# EAGLE library part 5VLX110FF1760 (library xilinx_spartan3_virtex4_and_5)
Xilinx FPGA
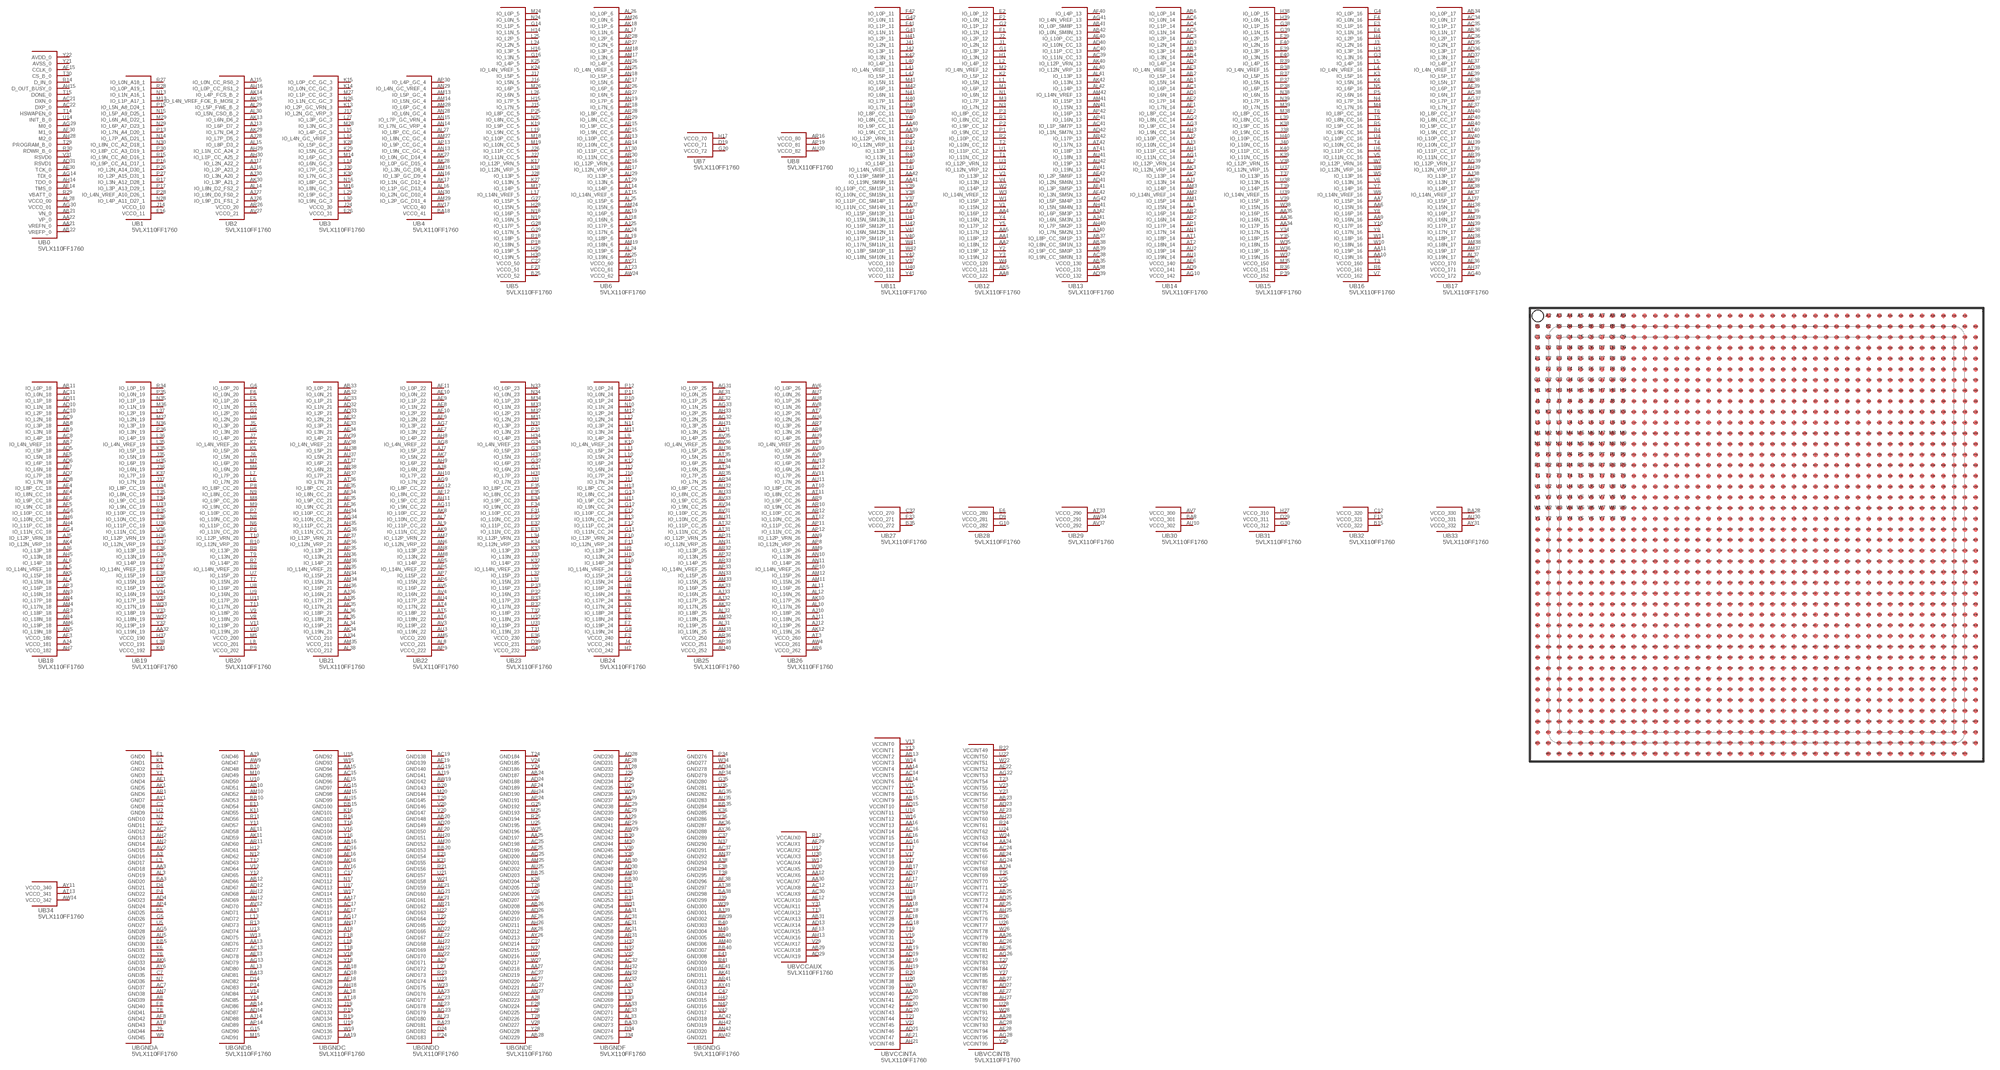
[diagram p100: symbol with the pads of FF1760; footprint FF1760]

Designator prefix U; gates B0=5VLX110FF1760_0 B1=5VLX110FF1760_1 B2=5VLX110FF1760_2 B3=5VLX110FF1760_3 B4=5VLX110FF1760_4 B5=5VLX110FF1760_5 B6=5VLX110FF1760_6 B7=5VLX110FF1760_7 B8=5VLX110FF1760_8 B11=5VLX110FF1760_11 B12=5VLX110FF1760_12 B13=5VLX110FF1760_13 B14=5VLX110FF1760_14 B15=5VLX110FF1760_15 B16=5VLX110FF1760_16 B17=5VLX110FF1760_17 B18=5VLX110FF1760_18 B19=5VLX110FF1760_19 B20=5VLX110FF1760_20 B21=5VLX110FF1760_21 B22=5VLX110FF1760_22 B23=5VLX110FF1760_23 B24=5VLX110FF1760_24 B25=5VLX110FF1760_25 B26=5VLX110FF1760_26 B27=5VLX110FF1760_27 B28=5VLX110FF1760_28 B29=5VLX110FF1760_29 B30=5VLX110FF1760_30 B31=5VLX110FF1760_31 B32=5VLX110FF1760_32 B33=5VLX110FF1760_33 B34=5VLX110FF1760_34 BGNDA=5VLX110FF1760_GNDA BGNDB=5VLX110FF1760_GNDB BGNDC=5VLX110FF1760_GNDC BGNDD=5VLX110FF1760_GNDD BGNDE=5VLX110FF1760_GNDE BGNDF=5VLX110FF1760_GNDF BGNDG=5VLX110FF1760_GNDG BVCCAUX=5VLX110FF1760_VCCAUX BVCCINTA=5VLX110FF1760_VCCINTA BVCCINTB=5VLX110FF1760_VCCINTB

## 5VLX110FF1760  [FF1760]
A3  BGNDA:GND16  pas
A8  BGNDA:GND39  pas
A13  BGNDB:GND71  pas
A18  BGNDC:GND120  pas
A23  BGNDD:GND171  pas
A28  BGNDE:GND223  pas
A33  BGNDF:GND267  pas
A38  BGNDG:GND293  pas
AA1  B12:IO_L18P_12
AA2  B12:IO_L18N_12
AA3  BGNDA:GND18  pas
AA4  B12:IO_L16P_12
AA5  B12:IO_L17N_12
AA6  B16:IO_L15N_16
AA7  B16:IO_L15P_16
AA8  B12:VCCO_122  pas
AA9  B16:IO_L16N_16
AA10  B16:IO_L19N_16
AA11  B16:IO_L19P_16
AA12  BVCCAUX:VCCAUX6  pas
AA13  BGNDB:GND76  pas
AA14  BVCCINTA:VCCINT4  pas
AA15  BGNDC:GND94  pas
AA16  BVCCINTA:VCCINT13  pas
AA17  BGNDC:GND115  pas
AA18  BVCCINTA:VCCINT26  pas
AA19  BGNDC:GND137  pas
AA20  BVCCINTA:VCCINT40  pas
AA21  B0:VREFN_0
AA22  B0:VP_0
AA23  BGNDD:GND176  pas
AA24  BVCCINTB:VCCINT64  pas
AA25  BGNDE:GND197  pas
AA26  BVCCINTB:VCCINT79  pas
AA27  BGNDE:GND218  pas
AA28  BVCCINTB:VCCINT92  pas
AA29  BGNDF:GND237  pas
AA30  BVCCAUX:VCCAUX7  pas
AA31  BGNDF:GND255  pas
AA32  B19:IO_L19N_19
AA33  BGNDF:GND270  pas
AA34  B15:IO_L17P_15
AA35  B15:IO_L16P_15
AA36  B15:IO_L16N_15
AA37  B11:IO_L11N_CC_SM14N_11
AA38  B13:VCCO_131  pas
AA39  B11:IO_L9N_CC_11
AA40  B11:IO_L9P_CC_11
AA41  B11:IO_L19N_SM9N_11
AA42  B11:IO_L19P_SM9P_11
AB1  B14:IO_L5N_14
AB2  B14:IO_L5P_14
AB3  B14:IO_L3P_14
AB4  B14:IO_L3N_14
AB5  B12:VCCO_121  pas
AB6  B14:IO_L0P_14
AB7  B18:IO_L4N_VREF_18
AB8  B18:IO_L3P_18
AB9  B18:IO_L3N_18
AB10  BGNDB:GND51  pas
AB11  B18:IO_L0P_18
AB12  BGNDB:GND66  pas
AB13  BVCCINTA:VCCINT2  pas
AB14  BGNDB:GND86  pas
AB15  BVCCINTA:VCCINT9  pas
AB16  BGNDC:GND106  pas
AB17  BVCCINTA:VCCINT20  pas
AB18  BGNDC:GND126  pas
AB19  BVCCINTA:VCCINT33  pas
AB20  BGNDD:GND148  pas
AB21  B0:VN_0
AB22  B0:VREFP_0
AB23  BVCCINTB:VCCINT57  pas
AB24  BGNDE:GND187  pas
AB25  BVCCINTB:VCCINT72  pas
AB26  BGNDE:GND208  pas
AB27  BVCCINTB:VCCINT86  pas
AB28  BGNDE:GND229  pas
AB29  BVCCAUX:VCCAUX18  pas
AB30  BGNDF:GND247  pas
AB31  BVCCAUX:VCCAUX13  pas
AB32  B21:IO_L0N_21
AB33  B21:IO_L0P_21
AB34  B17:IO_L0P_17
AB35  B13:VCCO_130  pas
AB36  B17:IO_L1N_17
AB37  B13:IO_L8P_CC_SM1P_13
AB38  B13:IO_L8N_CC_SM1N_13
AB39  B13:IO_L9P_CC_SM0P_13
AB40  BGNDG:GND305  pas
AB41  B13:IO_L0P_SM8P_13
AB42  B13:IO_L0N_SM8N_13
AC1  B14:IO_L6P_14
AC2  BGNDA:GND12  pas
AC3  B14:IO_L2P_14
AC4  B14:IO_L1P_14
AC5  B14:IO_L1N_14
AC6  B14:IO_L0N_14
AC7  BGNDA:GND37  pas
AC8  B18:IO_L4P_18
AC9  B18:IO_L2N_18
AC10  B18:IO_L2P_18
AC11  B18:IO_L0N_18
AC12  BVCCAUX:VCCAUX8  pas
AC13  BGNDB:GND77  pas
AC14  BVCCINTA:VCCINT5  pas
AC15  BGNDC:GND95  pas
AC16  BVCCINTA:VCCINT14  pas
AC17  BGNDC:GND116  pas
AC18  BVCCINTA:VCCINT27  pas
AC19  BGNDD:GND138  pas
AC20  BVCCINTA:VCCINT41  pas
AC21  B0:DXN_0
AC22  B0:DXP_0
AC23  BGNDD:GND177  pas
AC24  BVCCINTB:VCCINT65  pas
AC25  BGNDE:GND198  pas
AC26  BVCCINTB:VCCINT80  pas
AC27  BGNDE:GND219  pas
AC28  BVCCINTB:VCCINT93  pas
AC29  BGNDF:GND238  pas
AC30  BVCCAUX:VCCAUX9  pas
AC31  BGNDF:GND256  pas
AC32  BGNDF:GND263  pas
AC33  B21:IO_L1P_21
AC34  B17:IO_L0N_17
AC35  B17:IO_L1P_17
AC36  B17:IO_L2P_17
AC37  BGNDG:GND291  pas
AC38  B13:IO_L9N_CC_SM0N_13
AC39  B13:IO_L11N_CC_13
AC40  B13:IO_L11P_CC_13
AC41  B13:IO_L1P_SM7P_13
AC42  BGNDG:GND318  pas
AD1  B14:IO_L6N_14
AD2  B14:IO_L4P_14
AD3  B14:IO_L2N_14
AD4  BGNDA:GND23  pas
AD5  B18:IO_L5P_18
AD6  B18:IO_L6P_18
AD7  B18:IO_L7P_18
AD8  B18:IO_L7N_18
AD9  B14:VCCO_141  pas
AD10  B18:IO_L1N_18
AD11  B18:IO_L1P_18
AD12  BGNDB:GND67  pas
AD13  BVCCAUX:VCCAUX14  pas
AD14  BGNDB:GND87  pas
AD15  BVCCINTA:VCCINT10  pas
AD16  BGNDC:GND107  pas
AD17  BVCCINTA:VCCINT21  pas
AD18  BGNDC:GND127  pas
AD19  BVCCINTA:VCCINT34  pas
AD20  BGNDD:GND149  pas
AD21  BVCCINTA:VCCINT46  pas
AD22  BGNDD:GND166  pas
AD23  BVCCINTB:VCCINT58  pas
AD24  BGNDE:GND188  pas
AD25  BVCCINTB:VCCINT73  pas
AD26  BGNDE:GND209  pas
AD27  BVCCINTB:VCCINT87  pas
AD28  BGNDF:GND230  pas
AD29  BVCCAUX:VCCAUX19  pas
AD30  BGNDF:GND248  pas
AD31  B0:RSVD1
AD32  B21:IO_L1N_21
AD33  B21:IO_L2P_21
AD34  BGNDG:GND278  pas
AD35  B17:IO_L2N_17
AD36  B17:IO_L3P_17
AD37  B17:IO_L3N_17
AD38  B17:IO_L4N_VREF_17
AD39  B13:VCCO_132  pas
AD40  B13:IO_L10N_CC_13
AD41  B13:IO_L2N_SM6N_13
AD42  B13:IO_L1N_SM7N_13
AE1  BGNDA:GND4  pas
AE2  B14:IO_L7P_14
AE3  B14:IO_L4N_VREF_14
AE4  B18:IO_L8P_CC_18
AE5  B18:IO_L5N_18
AE6  B14:VCCO_140  pas
AE7  B18:IO_L6N_18
AE8  B22:IO_L1N_22
AE9  B22:IO_L1P_22
AE10  B22:IO_L0N_22
AE11  BGNDB:GND58  pas
AE12  BVCCAUX:VCCAUX10  pas
AE13  BGNDB:GND78  pas
AE14  BVCCINTA:VCCINT6  pas
AE15  BGNDC:GND96  pas
AE16  BVCCINTA:VCCINT15  pas
AE17  BGNDC:GND117  pas
AE18  BVCCINTA:VCCINT28  pas
AE19  BGNDD:GND139  pas
AE20  BVCCINTA:VCCINT42  pas
AE21  BGNDD:GND159  pas
AE22  BVCCINTB:VCCINT52  pas
AE23  BGNDD:GND178  pas
AE24  BVCCINTB:VCCINT66  pas
AE25  BGNDE:GND199  pas
AE26  BVCCINTB:VCCINT81  pas
AE27  BGNDE:GND220  pas
AE28  BVCCINTB:VCCINT94  pas
AE29  BGNDF:GND239  pas
AE30  B0:TCK_0
AE31  BGNDF:GND257  pas
AE32  B21:IO_L2N_21
AE33  B21:IO_L3P_21
AE34  B21:IO_L3N_21
AE35  B21:IO_L8P_CC_21
AE36  B17:VCCO_170  pas
AE37  B17:IO_L4P_17
AE38  B17:IO_L5N_17
AE39  B17:IO_L5P_17
AE40  B13:IO_L10P_CC_13
AE41  BGNDG:GND310  pas
AE42  B13:IO_L2P_SM6P_13
AF1  B14:IO_L7N_14
AF2  B14:IO_L8P_CC_14
AF3  B18:VCCO_180  pas
AF4  B18:IO_L8N_CC_18
AF5  B18:IO_L9N_CC_18
AF6  B18:IO_L9P_CC_18
AF7  B22:IO_L3N_22
AF8  BGNDA:GND42  pas
AF9  B22:IO_L2N_22
AF10  B22:IO_L2P_22
AF11  B22:IO_L0P_22
AF12  B22:IO_L8N_CC_22
AF13  BVCCAUX:VCCAUX15  pas
AF14  B0:TMS_0
AF15  B0:CCLK_0
AF16  BGNDC:GND108  pas
AF17  BVCCINTA:VCCINT22  pas
AF18  BGNDC:GND128  pas
AF19  BVCCINTA:VCCINT35  pas
AF20  BGNDD:GND150  pas
AF21  BVCCINTA:VCCINT47  pas
AF22  BGNDD:GND167  pas
AF23  BVCCINTB:VCCINT59  pas
AF24  BGNDE:GND189  pas
AF25  BVCCINTB:VCCINT74  pas
AF26  BGNDE:GND210  pas
AF27  BVCCINTB:VCCINT88  pas
AF28  BGNDF:GND231  pas
AF29  BVCCAUX:VCCAUX1  pas
AF30  B0:M1_0
AF31  B25:IO_L0N_25
AF32  B25:IO_L1P_25
AF33  BGNDF:GND271  pas
AF34  B21:IO_L8N_CC_21
AF35  B21:IO_L9P_CC_21
AF36  B21:IO_L9N_CC_21
AF37  B17:IO_L7N_17
AF38  BGNDG:GND296  pas
AF39  B17:IO_L6P_17
AF40  B13:IO_L4P_13
AF41  B13:IO_L3P_SM5P_13
AF42  B13:IO_L3N_SM5N_13
AG1  B14:IO_L11N_CC_14
AG2  B14:IO_L8N_CC_14
AG3  B14:IO_L9P_CC_14
AG4  B18:IO_L11N_CC_18
AG5  BGNDA:GND28  pas
AG6  B18:IO_L10P_CC_18
AG7  B22:IO_L3P_22
AG8  B22:IO_L4N_VREF_22
AG9  B22:IO_L7N_22
AG10  B14:VCCO_142  pas
AG11  B22:IO_L9N_CC_22
AG12  B22:IO_L8P_CC_22
AG13  BGNDB:GND79  pas
AG14  B0:TDI_0
AG15  BGNDC:GND97  pas
AG16  BVCCINTA:VCCINT16  pas
AG17  BGNDC:GND118  pas
AG18  BVCCINTA:VCCINT29  pas
AG19  BGNDD:GND140  pas
AG20  BVCCINTA:VCCINT43  pas
AG21  BGNDD:GND160  pas
AG22  BVCCINTB:VCCINT53  pas
AG23  BGNDD:GND179  pas
AG24  BVCCINTB:VCCINT67  pas
AG25  BGNDE:GND200  pas
AG26  BVCCINTB:VCCINT82  pas
AG27  BGNDE:GND221  pas
AG28  BVCCINTB:VCCINT95  pas
AG29  B0:M0_0
AG30  B0:VCCO_01  pas
AG31  B25:IO_L0P_25
AG32  B25:IO_L2N_25
AG33  B25:IO_L1N_25
AG34  B21:IO_L10N_CC_21
AG35  BGNDG:GND282  pas
AG36  B21:IO_L11N_CC_21
AG37  B17:IO_L7P_17
AG38  B17:IO_L6N_17
AG39  B17:IO_L12P_VRN_17
AG40  B17:VCCO_172  pas
AG41  B13:IO_L4N_VREF_13
AG42  B13:IO_L5P_SM4P_13
AH1  B14:IO_L11P_CC_14
AH2  BGNDA:GND13  pas
AH3  B14:IO_L9N_CC_14
AH4  B18:IO_L11P_CC_18
AH5  B18:IO_L13N_18
AH6  B18:IO_L10N_CC_18
AH7  B18:VCCO_182  pas
AH8  B22:IO_L4P_22
AH9  B22:IO_L6P_22
AH10  B22:IO_L7P_22
AH11  B22:IO_L9P_CC_22
AH12  BGNDB:GND68  pas
AH13  BVCCAUX:VCCAUX16  pas
AH14  B0:TDO_0
AH15  B0:D_OUT_BUSY_0
AH16  B2:IO_L0P_CC_RS1_2
AH17  BVCCINTA:VCCINT23  pas
AH18  BGNDC:GND129  pas
AH19  BVCCINTA:VCCINT36  pas
AH20  BGNDD:GND151  pas
AH21  BVCCINTA:VCCINT48  pas
AH22  BGNDD:GND168  pas
AH23  BVCCINTB:VCCINT60  pas
AH24  BGNDE:GND190  pas
AH25  BVCCINTB:VCCINT75  pas
AH26  BGNDE:GND211  pas
AH27  BVCCINTB:VCCINT89  pas
AH28  B0:M2_0
AH29  B2:IO_L1N_CC_A24_2
AH30  B2:IO_L1P_CC_A25_2
AH31  B25:IO_L3P_25
AH32  BGNDF:GND264  pas
AH33  B25:IO_L2P_25
AH34  B21:IO_L10P_CC_21
AH35  B21:IO_L11P_CC_21
AH36  B21:IO_L16P_21
AH37  B17:VCCO_171  pas
AH38  B17:IO_L15N_17
AH39  B17:IO_L12N_VRP_17
AH40  B13:IO_L7P_SM2P_13
AH41  B13:IO_L5N_SM4N_13
AH42  BGNDG:GND319  pas
AJ1  B14:IO_L13N_14
AJ2  B14:IO_L10P_CC_14
AJ3  B14:IO_L10N_CC_14
AJ4  B18:VCCO_181  pas
AJ5  B18:IO_L12P_VRN_18
AJ6  B18:IO_L13P_18
AJ7  B22:IO_L5P_22
AJ8  B22:IO_L6N_22
AJ9  BGNDB:GND46  pas
AJ10  B26:IO_L18P_26
AJ11  B26:IO_L18N_26
AJ12  B26:IO_L19P_26
AJ13  B2:IO_L6P_D7_2
AJ14  BGNDB:GND88  pas
AJ15  B2:IO_L0N_CC_RS0_2
AJ16  B2:IO_L2P_A23_2
AJ17  B2:IO_L2N_A22_2
AJ18  B6:IO_L16N_6
AJ19  BGNDD:GND141  pas
AJ24  BVCCINTB:VCCINT68  pas
AJ25  B6:IO_L17P_6
AJ26  B2:IO_L9P_D1_FS1_2
AJ27  B2:IO_L9N_D0_FS0_2
AJ28  B2:IO_L7P_D5_2
AJ29  BGNDF:GND240  pas
AJ30  B2:IO_L3N_A20_2
AJ31  B25:IO_L3N_25
AJ32  B25:IO_L17P_25
AJ33  B25:IO_L16N_25
AJ34  B21:VCCO_210  pas
AJ35  B21:IO_L17P_21
AJ36  B21:IO_L16N_21
AJ37  B17:IO_L15P_17
AJ38  B17:IO_L13P_17
AJ39  BGNDG:GND301  pas
AJ40  B13:IO_L7N_SM2N_13
AJ41  B13:IO_L6N_SM3N_13
AJ42  B13:IO_L6P_SM3P_13
AK1  BGNDA:GND5  pas
AK2  B14:IO_L13P_14
AK3  B14:IO_L12N_VRP_14
AK4  B18:IO_L12N_VRP_18
AK5  B18:IO_L15P_18
AK6  BGNDA:GND33  pas
AK7  B22:IO_L5N_22
AK8  B22:IO_L10P_CC_22
AK9  B22:IO_L11N_CC_22
AK10  B26:IO_L17P_26
AK11  BGNDB:GND59  pas
AK12  B26:IO_L19N_26
AK13  B2:IO_L6N_D6_2
AK14  B2:IO_L4P_FCS_B_2
AK15  B2:IO_L4N_VREF_FOE_B_MOSI_2
AK16  BGNDC:GND109  pas
AK17  B4:IO_L1N_GC_D12_4
AK18  B6:IO_L1P_6
AK19  B6:IO_L16P_6
AK21  BGNDD:GND161  pas
AK24  B6:IO_L17N_6
AK25  B6:IO_L19N_6
AK26  BGNDE:GND212  pas
AK27  B4:IO_L0N_GC_D14_4
AK28  B4:IO_L0P_GC_D15_4
AK29  B2:IO_L7N_D4_2
AK30  B2:IO_L3P_A21_2
AK31  BGNDF:GND258  pas
AK32  B25:IO_L17N_25
AK33  B25:IO_L16P_25
AK34  B21:IO_L19N_21
AK35  B21:IO_L17N_21
AK36  BGNDG:GND287  pas
AK37  B17:IO_L14N_VREF_17
AK38  B17:IO_L14P_17
AK39  B17:IO_L13N_17
AK40  B13:IO_L12P_VRN_13
AK41  BGNDG:GND311  pas
AK42  B13:IO_L13N_13
AL1  B14:IO_L15N_14
AL2  B14:IO_L12P_VRN_14
AL3  BGNDA:GND19  pas
AL4  B18:IO_L15N_18
AL5  B18:IO_L14N_VREF_18
AL6  B18:IO_L14P_18
AL7  B22:IO_L10N_CC_22
AL8  B22:VCCO_221  pas
AL9  B22:IO_L11P_CC_22
AL10  B26:IO_L17N_26
AL11  B26:IO_L16P_26
AL12  B26:IO_L16N_26
AL13  BGNDB:GND80  pas
AL14  B2:IO_L8N_D2_FS2_2
AL15  B2:IO_L8P_D3_2
AL16  B4:IO_L1P_GC_D13_4
AL17  B6:IO_L1N_6
AL18  BGNDC:GND130  pas
AL19  B6:IO_L18P_6
AL23  BGNDD:GND180  pas
AL24  B6:IO_L19P_6
AL25  B6:IO_L15P_6
AL26  B6:IO_L0P_6
AL27  B4:IO_L8P_CC_GC_4
AL28  B0:VCCO_00  pas
AL29  B2:IO_L5P_FWE_B_2
AL30  B2:IO_L5N_CSO_B_2
AL31  B25:IO_L19P_25
AL32  B25:IO_L18P_25
AL33  BGNDF:GND272  pas
AL34  B21:IO_L19P_21
AL35  B21:IO_L18N_21
AL36  B21:IO_L18P_21
AL37  B17:IO_L19N_17
AL38  B21:VCCO_212  pas
AL39  B17:IO_L16P_17
AL40  B13:IO_L12N_VRP_13
AL41  B13:IO_L13P_13
AL42  B13:IO_L14P_13
AM1  B14:IO_L15P_14
AM2  B14:IO_L14N_VREF_14
AM3  B14:IO_L14P_14
AM4  B18:IO_L17N_18
AM5  B22:VCCO_220  pas
AM6  B18:IO_L19P_18
AM7  B22:IO_L12P_VRN_22
AM8  B22:IO_L13N_22
AM9  B26:IO_L13P_26
AM10  BGNDB:GND52  pas
AM11  B26:IO_L15N_26
AM12  B26:IO_L15P_26
AM13  B4:IO_L5P_GC_4
AM14  B4:IO_L5N_GC_4
AM15  BGNDC:GND98  pas
AM16  B4:IO_L3N_GC_D8_4
AM17  B6:IO_L3N_6
AM18  B6:IO_L3P_6
AM19  B6:IO_L18N_6
AM20  BGNDD:GND152  pas
AM24  B6:IO_L15N_6
AM25  BGNDE:GND201  pas
AM26  B6:IO_L0N_6
AM27  B4:IO_L8N_CC_GC_4
AM28  B4:IO_L6P_GC_4
AM29  B4:IO_L2P_GC_D11_4
AM30  BGNDF:GND249  pas
AM31  B25:IO_L19N_25
AM32  B25:IO_L18N_25
AM33  B25:IO_L15N_25
AM34  B21:IO_L15N_21
AM35  B21:VCCO_211  pas
AM36  B21:IO_L14P_21
AM37  B17:IO_L19P_17
AM38  B17:IO_L18N_17
AM39  B17:IO_L16N_17
AM40  BGNDG:GND306  pas
AM41  B13:IO_L15P_13
AM42  B13:IO_L14N_VREF_13
AN1  B14:IO_L17N_14
AN2  BGNDA:GND14  pas
AN3  B18:IO_L16N_18
AN4  B18:IO_L17P_18
AN5  B18:IO_L19N_18
AN6  B22:IO_L12N_VRP_22
AN7  BGNDA:GND38  pas
AN8  B22:IO_L13P_22
AN9  B26:IO_L12P_VRN_26
AN10  B26:IO_L13N_26
AN11  B26:IO_L14P_26
AN12  BGNDB:GND69  pas
AN13  B4:IO_L9N_CC_GC_4
AN14  B4:IO_L7N_GC_VRP_4
AN15  B4:IO_L7P_GC_VRN_4
AN16  B4:IO_L3P_GC_D9_4
AN17  BGNDC:GND119  pas
AN18  B6:IO_L5P_6
AN19  B6:IO_L7P_6
AN22  BGNDD:GND169  pas
AN25  B6:IO_L4N_VREF_6
AN26  B6:IO_L4P_6
AN27  BGNDE:GND222  pas
AN28  B4:IO_L6N_GC_4
AN29  B4:IO_L4N_GC_VREF_4
AN30  B4:IO_L2N_GC_D10_4
AN31  B25:IO_L12N_VRP_25
AN32  BGNDF:GND265  pas
AN33  B25:IO_L15P_25
AN34  B21:IO_L15P_21
AN35  B21:IO_L14N_VREF_21
AN36  B21:IO_L13N_21
AN37  BGNDG:GND292  pas
AN38  B17:IO_L18P_17
AN39  B17:IO_L17P_17
AN40  B17:IO_L8P_CC_17
AN41  B13:IO_L15N_13
AN42  BGNDG:GND320  pas
AP1  B14:IO_L17P_14
AP2  B14:IO_L16N_14
AP3  B18:IO_L16P_18
AP4  BGNDA:GND24  pas
AP5  B22:IO_L14N_VREF_22
AP6  B22:IO_L15N_22
AP7  B22:IO_L15P_22
AP8  B26:IO_L12N_VRP_26
AP9  B22:VCCO_222  pas
AP10  B26:IO_L14N_VREF_26
AP11  B26:IO_L11P_CC_26
AP12  B26:IO_L11N_CC_26
AP13  B4:IO_L9P_CC_GC_4
AP14  BGNDB:GND89  pas
AP15  B6:IO_L9N_CC_6
AP16  B6:IO_L12P_VRN_6
AP17  B6:IO_L5N_6
AP18  B6:IO_L7N_6
AP19  B8:VCCO_81  pas
AP24  BGNDE:GND191  pas
AP26  B6:IO_L6P_6
AP27  B6:IO_L2N_6
AP28  B6:IO_L2P_6
AP29  BGNDF:GND241  pas
AP30  B4:IO_L4P_GC_4
AP31  B25:IO_L12P_VRN_25
AP32  B25:IO_L13N_25
AP33  B25:IO_L14N_VREF_25
AP34  BGNDG:GND279  pas
AP35  B21:IO_L13P_21
AP36  B21:IO_L12N_VRP_21
AP37  B21:IO_L12P_VRN_21
AP38  B17:IO_L17N_17
AP39  B25:VCCO_251  pas
AP40  B17:IO_L8N_CC_17
AP41  B13:IO_L16N_13
AP42  B13:IO_L16P_13
AR1  BGNDA:GND6  pas
AR2  B14:IO_L16P_14
AR3  B18:IO_L18P_18
AR4  B18:IO_L18N_18
AR5  B22:IO_L14P_22
AR6  B26:VCCO_262  pas
AR7  B26:IO_L3P_26
AR8  B26:IO_L3N_26
AR9  B26:IO_L9P_CC_26
AR10  B26:IO_L9N_CC_26
AR11  BGNDB:GND60  pas
AR12  B26:IO_L10P_CC_26
AR13  B6:IO_L10P_CC_6
AR14  B6:IO_L10N_CC_6
AR15  B6:IO_L9P_CC_6
AR16  B8:VCCO_80  pas
AR17  B6:IO_L12N_VRP_6
AR21  BGNDD:GND162  pas
AR26  B2:VCCO_20  pas
AR27  B6:IO_L6N_6
AR28  B6:IO_L8P_CC_6
AR29  B6:IO_L8N_CC_6
AR30  B6:IO_L11N_CC_6
AR31  BGNDF:GND259  pas
AR32  B25:IO_L13P_25
AR33  B25:IO_L14P_25
AR34  B25:IO_L7N_25
AR35  B25:IO_L7P_25
AR36  B25:VCCO_250  pas
AR37  B21:IO_L7P_21
AR38  B21:IO_L6N_21
AR39  B17:IO_L11N_CC_17
AR40  B17:IO_L9P_CC_17
AR41  BGNDG:GND312  pas
AR42  B13:IO_L17P_13
AT1  B14:IO_L18P_14
AT2  B14:IO_L18N_14
AT3  B26:VCCO_260  pas
AT4  B22:IO_L17N_22
AT5  B22:IO_L18P_22
AT6  B22:IO_L18N_22
AT7  B26:IO_L2P_26
AT8  BGNDA:GND43  pas
AT9  B26:IO_L4N_VREF_26
AT10  B26:IO_L8P_CC_26
AT11  B26:IO_L8N_CC_26
AT12  B26:IO_L10N_CC_26
AT13  B34:VCCO_341  pas
AT14  B6:IO_L14P_6
AT15  B6:IO_L14N_VREF_6
AT18  BGNDC:GND131  pas
AT23  B6:VCCO_61  pas
AT28  BGNDF:GND232  pas
AT29  B6:IO_L13N_6
AT30  B6:IO_L11P_CC_6
AT31  B25:IO_L11N_CC_25
AT32  B25:IO_L11P_CC_25
AT33  B29:VCCO_290  pas
AT34  B25:IO_L6N_25
AT35  B25:IO_L5N_25
AT36  B21:IO_L7N_21
AT37  B21:IO_L6P_21
AT38  BGNDG:GND297  pas
AT39  B17:IO_L11P_CC_17
AT40  B17:IO_L9N_CC_17
AT41  B13:IO_L18P_13
AT42  B13:IO_L17N_13
AU1  B14:IO_L19N_14
AU2  B14:IO_L19P_14
AU3  B22:IO_L19N_22
AU4  B22:IO_L17P_22
AU5  BGNDA:GND29  pas
AU6  B26:IO_L2N_26
AU7  B26:IO_L0N_26
AU8  B26:IO_L1P_26
AU9  B26:IO_L4P_26
AU10  B30:VCCO_302  pas
AU11  B26:IO_L7N_26
AU12  B26:IO_L6N_26
AU13  B26:IO_L6P_26
AU15  BGNDC:GND99  pas
AU20  B8:VCCO_82  pas
AU25  BGNDE:GND202  pas
AU29  B6:IO_L13P_6
AU30  B33:VCCO_331  pas
AU31  B25:IO_L10N_CC_25
AU32  B25:IO_L8P_CC_25
AU33  B25:IO_L8N_CC_25
AU34  B25:IO_L6P_25
AU35  BGNDG:GND283  pas
AU36  B25:IO_L5P_25
AU37  B21:IO_L5N_21
AU38  B21:IO_L5P_21
AU39  B17:IO_L10N_CC_17
AU40  B25:VCCO_252  pas
AU41  B13:IO_L18N_13
AU42  B13:IO_L19P_13
AV2  BGNDA:GND15  pas
AV3  B22:IO_L19P_22
AV4  B22:IO_L16N_22
AV5  B22:IO_L16P_22
AV6  B26:IO_L0P_26
AV7  B30:VCCO_300  pas
AV8  B26:IO_L1N_26
AV9  B26:IO_L5N_26
AV10  B26:IO_L5P_26
AV11  B26:IO_L7P_26
AV12  BGNDB:GND70  pas
AV17  B4:VCCO_40  pas
AV22  BGNDD:GND170  pas
AV27  B2:VCCO_21  pas
AV31  B25:IO_L10P_CC_25
AV32  BGNDF:GND266  pas
AV33  B25:IO_L9P_CC_25
AV34  B25:IO_L9N_CC_25
AV35  B25:IO_L4P_25
AV36  B25:IO_L4N_VREF_25
AV37  B29:VCCO_292  pas
AV38  B21:IO_L4N_VREF_21
AV39  B21:IO_L4P_21
AV40  B17:IO_L10P_CC_17
AV41  B13:IO_L19N_13
AV42  BGNDG:GND321  pas
AW4  B26:VCCO_261  pas
AW9  BGNDB:GND47  pas
AW14  B34:VCCO_342  pas
AW19  BGNDD:GND142  pas
AW24  B6:VCCO_62  pas
AW29  BGNDF:GND242  pas
AW34  B29:VCCO_291  pas
AW39  BGNDG:GND302  pas
AY1  BGNDA:GND7  pas
AY6  BGNDA:GND34  pas
AY11  B34:VCCO_340  pas
AY16  BGNDC:GND110  pas
AY21  B6:VCCO_60  pas
AY26  BGNDE:GND213  pas
AY31  B33:VCCO_332  pas
AY36  BGNDG:GND288  pas
AY41  BGNDG:GND313  pas
B5  BGNDA:GND25  pas
B10  BGNDB:GND48  pas
B15  B32:VCCO_322  pas
B20  BGNDD:GND143  pas
B25  B5:VCCO_52  pas
B30  BGNDF:GND243  pas
B35  B27:VCCO_272  pas
B40  BGNDG:GND303  pas
BA3  BGNDA:GND20  pas
BA8  B30:VCCO_301  pas
BA13  BGNDB:GND81  pas
BA18  B4:VCCO_41  pas
BA23  BGNDD:GND181  pas
BA28  B33:VCCO_330  pas
BA33  BGNDF:GND273  pas
BA38  BGNDG:GND298  pas
BB5  BGNDA:GND30  pas
BB10  BGNDB:GND53  pas
BB15  BGNDC:GND100  pas
BB20  BGNDD:GND153  pas
BB25  BGNDE:GND203  pas
BB30  BGNDF:GND250  pas
BB35  BGNDG:GND284  pas
BB40  BGNDG:GND307  pas
C2  BGNDA:GND8  pas
C7  BGNDA:GND35  pas
C12  B32:VCCO_320  pas
C17  BGNDC:GND111  pas
C22  B5:VCCO_50  pas
C27  BGNDE:GND214  pas
C32  B27:VCCO_270  pas
C37  BGNDG:GND289  pas
C42  BGNDG:GND314  pas
D4  BGNDA:GND21  pas
D9  B28:VCCO_281  pas
D14  BGNDB:GND82  pas
D19  B7:VCCO_71  pas
D24  BGNDD:GND182  pas
D29  B31:VCCO_311  pas
D34  BGNDF:GND274  pas
D37  B19:IO_L15N_19
D39  B23:VCCO_231  pas
E1  BGNDA:GND0  pas
E2  B12:IO_L0P_12
E3  B16:IO_L1P_16
E4  B16:IO_L1N_16
E5  B20:IO_L1N_20
E6  B28:VCCO_280  pas
E7  B24:IO_L18P_24
E8  B24:IO_L18N_24
E9  B24:IO_L14N_VREF_24
E10  B24:IO_L14P_24
E11  BGNDB:GND54  pas
E12  B24:IO_L10P_CC_24
E13  B24:IO_L10N_CC_24
E16  B1:VCCO_11  pas
E21  BGNDD:GND154  pas
E26  B3:VCCO_31  pas
E31  BGNDF:GND251  pas
E32  B23:IO_L11P_CC_23
E33  B23:IO_L11N_CC_23
E34  B23:IO_L9P_CC_23
E35  B23:IO_L8N_CC_23
E36  B23:VCCO_230  pas
E37  B19:IO_L14N_VREF_19
E38  B19:IO_L15P_19
E39  B15:IO_L3P_15
E40  B15:IO_L3N_15
E41  BGNDG:GND308  pas
F1  B12:IO_L1N_12
F2  B12:IO_L0N_12
F3  B24:VCCO_240  pas
F4  B16:IO_L0N_16
F5  B20:IO_L1P_20
F6  B20:IO_L0N_20
F7  B24:IO_L19P_24
F8  BGNDA:GND40  pas
F9  B24:IO_L15P_24
F10  B24:IO_L12P_VRN_24
F11  B24:IO_L12N_VRP_24
F12  B24:IO_L11P_CC_24
F13  B32:VCCO_321  pas
F18  BGNDC:GND121  pas
F23  B5:VCCO_51  pas
F28  BGNDE:GND224  pas
F31  B23:IO_L10P_CC_23
F32  B23:IO_L10N_CC_23
F33  B27:VCCO_271  pas
F34  B23:IO_L9N_CC_23
F35  B23:IO_L8P_CC_23
F36  B19:IO_L13P_19
F37  B19:IO_L14P_19
F38  BGNDG:GND294  pas
F39  B15:IO_L2P_15
F40  B15:IO_L2N_15
F41  B11:IO_L1P_11
F42  B11:IO_L0P_11
G1  B12:IO_L3P_12
G2  B12:IO_L1P_12
G3  B16:IO_L3N_16
G4  B16:IO_L0P_16
G5  BGNDA:GND26  pas
G6  B20:IO_L0P_20
G7  B20:IO_L2P_20
G8  B24:IO_L19N_24
G9  B24:IO_L15N_24
G10  B28:VCCO_282  pas
G11  B24:IO_L11N_CC_24
G12  B24:IO_L9N_CC_24
G13  B24:IO_L8N_CC_24
G14  B5:IO_L1P_5
G15  BGNDB:GND90  pas
G16  B5:IO_L3N_5
G20  B7:VCCO_72  pas
G25  BGNDE:GND192  pas
G27  B5:IO_L15P_5
G28  B5:IO_L17P_5
G29  B5:IO_L17N_5
G30  B31:VCCO_312  pas
G31  B23:IO_L6N_23
G32  B23:IO_L6P_23
G33  B23:IO_L5P_23
G34  B23:IO_L4N_VREF_23
G35  BGNDG:GND280  pas
G36  B19:IO_L13N_19
G37  B19:IO_L12N_VRP_19
G38  B15:IO_L1P_15
G39  B15:IO_L1N_15
G40  B23:VCCO_232  pas
G41  B11:IO_L1N_11
G42  B11:IO_L0N_11
H1  B12:IO_L3N_12
H2  BGNDA:GND9  pas
H3  B16:IO_L3P_16
H4  B16:IO_L2P_16
H5  B20:IO_L3N_20
H6  B20:IO_L2N_20
H7  B24:VCCO_242  pas
H8  B24:IO_L16P_24
H9  B24:IO_L13P_24
H10  B24:IO_L13N_24
H11  B24:IO_L9P_CC_24
H12  BGNDB:GND61  pas
H13  B24:IO_L8P_CC_24
H14  B5:IO_L1N_5
H15  B5:IO_L7P_5
H16  B5:IO_L3P_5
H17  B7:VCCO_70  pas
H22  BGNDD:GND163  pas
H27  B31:VCCO_310  pas
H28  B5:IO_L15N_5
H29  B5:IO_L19P_5
H30  B5:IO_L19N_5
H31  B23:IO_L7P_23
H32  BGNDF:GND260  pas
H33  B23:IO_L5N_23
H34  B23:IO_L4P_23
H35  B19:IO_L6P_19
H36  B19:IO_L12P_VRN_19
H37  B19:VCCO_190  pas
H38  B15:IO_L0P_15
H39  B15:IO_L0N_15
H40  B15:IO_L10P_CC_15
H41  B11:IO_L2P_11
H42  BGNDG:GND315  pas
J1  B12:IO_L2N_12
J2  B12:IO_L2P_12
J3  B16:IO_L2N_16
J4  B24:VCCO_241  pas
J5  B20:IO_L3P_20
J6  B20:IO_L5N_20
J7  B20:IO_L4P_20
J8  B24:IO_L16N_24
J9  BGNDA:GND44  pas
J10  B24:IO_L7P_24
J11  B24:IO_L7N_24
J12  B24:IO_L6N_24
J13  B3:IO_L2N_GC_VRP_3
J14  B1:VCCO_10  pas
J15  B5:IO_L7N_5
J16  B5:IO_L5N_5
J17  B5:IO_L5P_5
J19  BGNDC:GND132  pas
J24  B3:VCCO_30  pas
J26  B5:IO_L11P_CC_5
J27  B5:IO_L11N_CC_5
J28  B5:IO_L13P_5
J29  BGNDF:GND233  pas
J30  B3:IO_L7P_GC_3
J31  B23:IO_L7N_23
J32  B23:IO_L14N_VREF_23
J33  B23:IO_L13N_23
J34  BGNDF:GND275  pas
J35  B19:IO_L5N_19
J36  B19:IO_L6N_19
J37  B19:IO_L7N_19
J38  B15:IO_L9N_CC_15
J39  BGNDG:GND299  pas
J40  B15:IO_L10N_CC_15
J41  B11:IO_L2N_11
J42  B11:IO_L3P_11
K1  BGNDA:GND1  pas
K2  B12:IO_L5P_12
K3  B16:IO_L5P_16
K4  B16:IO_L5N_16
K5  B20:IO_L5P_20
K6  BGNDA:GND31  pas
K7  B20:IO_L4N_VREF_20
K8  B24:IO_L17P_24
K9  B24:IO_L17N_24
K10  B24:IO_L4N_VREF_24
K11  BGNDB:GND55  pas
K12  B24:IO_L6P_24
K13  B3:IO_L2P_GC_VRN_3
K14  B3:IO_L0N_CC_GC_3
K15  B3:IO_L0P_CC_GC_3
K16  BGNDC:GND101  pas
K17  B5:IO_L12P_VRN_5
K18  B5:IO_L12N_VRP_5
K19  B5:IO_L9P_CC_5
K21  BGNDD:GND155  pas
K24  B5:IO_L4N_VREF_5
K25  B5:IO_L4P_5
K26  BGNDE:GND204  pas
K27  B5:IO_L13N_5
K28  B3:IO_L5P_GC_3
K29  B3:IO_L5N_GC_3
K30  B3:IO_L7N_GC_3
K31  BGNDF:GND252  pas
K32  B23:IO_L14P_23
K33  B23:IO_L13P_23
K34  B23:IO_L12N_VRP_23
K35  B19:IO_L5P_19
K36  BGNDG:GND285  pas
K37  B19:IO_L7P_19
K38  B15:IO_L9P_CC_15
K39  B15:IO_L11N_CC_15
K40  B15:IO_L11P_CC_15
K41  B19:VCCO_192  pas
K42  B11:IO_L3N_11
L1  B12:IO_L5N_12
L2  B12:IO_L4P_12
L3  BGNDA:GND17  pas
L4  B16:IO_L4N_VREF_16
L5  B16:IO_L4P_16
L6  B20:IO_L7N_20
L7  B20:IO_L7P_20
L8  B20:VCCO_201  pas
L9  B24:IO_L4P_24
L10  B24:IO_L5N_24
L11  B24:IO_L5P_24
L12  B24:IO_L2N_24
L13  BGNDB:GND72  pas
L14  B3:IO_L6N_GC_3
L15  B3:IO_L4P_GC_3
L16  B3:IO_L4N_GC_VREF_3
L17  B5:IO_L14N_VREF_5
L18  BGNDC:GND122  pas
L19  B5:IO_L9N_CC_5
L23  BGNDD:GND172  pas
L24  B5:IO_L2N_5
L25  B5:IO_L2P_5
L26  B5:IO_L6N_5
L27  B3:IO_L3P_GC_3
L28  BGNDE:GND225  pas
L29  B3:IO_L9P_GC_3
L30  B3:IO_L9N_GC_3
L31  B23:IO_L15N_23
L32  B23:IO_L15P_23
L33  BGNDF:GND268  pas
L34  B23:IO_L12P_VRN_23
L35  B19:IO_L4N_VREF_19
L36  B19:IO_L4P_19
L37  B19:IO_L2P_19
L38  B19:VCCO_191  pas
L39  B15:IO_L8N_CC_15
L40  B11:IO_L4P_11
L41  B11:IO_L4N_VREF_11
L42  B11:IO_L5P_11
M1  B12:IO_L6P_12
M2  B12:IO_L4N_VREF_12
M3  B12:IO_L7P_12
M4  B16:IO_L7N_16
M5  B20:VCCO_200  pas
M6  B20:IO_L6N_20
M7  B20:IO_L6P_20
M8  B20:IO_L9P_CC_20
M9  B20:IO_L9N_CC_20
M10  BGNDB:GND49  pas
M11  B24:IO_L3N_24
M12  B24:IO_L2P_24
M13  B1:IO_L1P_A17_1
M14  B3:IO_L6P_GC_3
M15  BGNDB:GND91  pas
M16  B3:IO_L8N_GC_3
M17  B5:IO_L14P_5
M18  B5:IO_L10P_CC_5
M19  B5:IO_L10N_CC_5
M20  BGNDD:GND144  pas
M24  B5:IO_L0P_5
M25  BGNDE:GND193  pas
M26  B5:IO_L6P_5
M27  B3:IO_L1P_CC_GC_3
M28  B3:IO_L3N_GC_3
M29  B1:IO_L6N_A6_D22_1
M30  BGNDF:GND244  pas
M31  B23:IO_L2N_23
M32  B23:IO_L2P_23
M33  B23:IO_L1N_23
M34  B23:IO_L1P_23
M35  B15:VCCO_150  pas
M36  B19:IO_L1N_19
M37  B19:IO_L2N_19
M38  B15:IO_L8P_CC_15
M39  B15:IO_L7N_15
M40  BGNDG:GND304  pas
M41  B11:IO_L5N_11
M42  B11:IO_L6P_11
N1  B12:IO_L6N_12
N2  BGNDA:GND10  pas
N3  B12:IO_L7N_12
N4  B16:IO_L7P_16
N5  B16:IO_L6P_16
N6  B20:IO_L11P_CC_20
N7  BGNDA:GND36  pas
N8  B20:IO_L10N_CC_20
N9  B20:IO_L8N_CC_20
N10  B24:IO_L1N_24
N11  B24:IO_L3P_24
N12  BGNDB:GND62  pas
N13  B1:IO_L1N_A16_1
N14  B1:IO_L7P_A5_D21_1
N15  B1:IO_L5P_A9_D25_1
N16  B3:IO_L8P_GC_3
N17  BGNDC:GND112  pas
N18  B5:IO_L16P_5
N19  B5:IO_L16N_5
N24  B5:IO_L0N_5
N25  B5:IO_L8N_CC_5
N26  B3:IO_L1N_CC_GC_3
N27  BGNDE:GND215  pas
N28  B1:IO_L4P_A11_D27_1
N29  B1:IO_L6P_A7_D23_1
N30  B1:IO_L8N_CC_A2_D18_1
N31  B23:IO_L3P_23
N32  BGNDF:GND261  pas
N33  B23:IO_L0P_23
N34  B23:IO_L0N_23
N35  B19:IO_L1P_19
N36  B19:IO_L3P_19
N37  BGNDG:GND290  pas
N38  B15:IO_L6N_15
N39  B15:IO_L7P_15
N40  B11:IO_L7P_11
N41  B11:IO_L6N_11
N42  BGNDG:GND316  pas
P1  B12:IO_L9N_CC_12
P2  B12:IO_L9P_CC_12
P3  B12:IO_L8P_CC_12
P4  BGNDA:GND22  pas
P5  B16:IO_L6N_16
P6  B20:IO_L11N_CC_20
P7  B20:IO_L10P_CC_20
P8  B20:IO_L8P_CC_20
P9  B20:VCCO_202  pas
P10  B24:IO_L1P_24
P11  B24:IO_L0N_24
P12  B24:IO_L0P_24
P13  B1:IO_L7N_A4_D20_1
P14  BGNDB:GND83  pas
P15  B1:IO_L5N_A8_D24_1
P16  B1:IO_L9P_CC_A1_D17_1
P17  B1:IO_L3P_A13_D29_1
P18  B5:IO_L18N_5
P19  BGNDC:GND133  pas
P24  BGNDD:GND183  pas
P25  B5:IO_L8P_CC_5
P26  B1:IO_L2N_A14_D30_1
P27  B1:IO_L2P_A15_D31_1
P28  B1:IO_L4N_VREF_A10_D26_1
P29  BGNDF:GND234  pas
P30  B1:IO_L8P_CC_A3_D19_1
P31  B23:IO_L3N_23
P32  B23:IO_L16N_23
P33  B23:IO_L16P_23
P34  BGNDG:GND276  pas
P35  B19:IO_L0N_19
P36  B19:IO_L3N_19
P37  B15:IO_L5N_15
P38  B15:IO_L6P_15
P39  B15:VCCO_152  pas
P40  B11:IO_L7N_11
P41  B11:IO_L13P_11
P42  B11:IO_L12N_VRP_11
R1  BGNDA:GND2  pas
R2  B12:IO_L10P_CC_12
R3  B12:IO_L8N_CC_12
R4  B16:IO_L9N_CC_16
R5  B16:IO_L9P_CC_16
R6  B16:VCCO_161  pas
R7  B20:IO_L14P_20
R8  B20:IO_L14N_VREF_20
R9  B20:IO_L13P_20
R10  B20:IO_L12N_VRP_20
R11  BGNDB:GND56  pas
R12  BVCCAUX:VCCAUX0  pas
R13  BGNDB:GND73  pas
R14  B0:D_IN_0
R15  B1:IO_L9N_CC_A0_D16_1
R16  BGNDC:GND102  pas
R17  B1:IO_L3N_A12_D28_1
R18  B5:IO_L18P_5
R19  BGNDC:GND134  pas
R20  BVCCINTA:VCCINT37  pas
R21  BGNDD:GND156  pas
R22  BVCCINTB:VCCINT49  pas
R23  BGNDD:GND173  pas
R24  BVCCINTB:VCCINT61  pas
R25  BGNDE:GND194  pas
R26  BVCCINTB:VCCINT76  pas
R27  B1:IO_L0N_A18_1
R28  B1:IO_L0P_A19_1
R29  B0:VBATT_0
R30  B0:RDWR_B_0
R31  BGNDF:GND253  pas
R32  B23:IO_L17N_23
R33  B23:IO_L17P_23
R34  B19:IO_L0P_19
R35  B19:IO_L10P_CC_19
R36  B15:VCCO_151  pas
R37  B15:IO_L5P_15
R38  B15:IO_L4N_VREF_15
R39  B15:IO_L4P_15
R40  B11:IO_L13N_11
R41  BGNDG:GND309  pas
R42  B11:IO_L12P_VRN_11
T1  B12:IO_L11N_CC_12
T2  B12:IO_L10N_CC_12
T3  B16:VCCO_160  pas
T4  B16:IO_L10N_CC_16
T5  B16:IO_L8N_CC_16
T6  B16:IO_L8P_CC_16
T7  B20:IO_L15N_20
T8  BGNDA:GND41  pas
T9  B20:IO_L13N_20
T10  B20:IO_L12P_VRN_20
T11  B20:IO_L17N_20
T12  BGNDB:GND63  pas
T13  BVCCAUX:VCCAUX12  pas
T14  B0:HSWAPEN_0
T15  B0:DONE_0
T16  BGNDC:GND103  pas
T17  BVCCINTA:VCCINT17  pas
T18  BGNDC:GND123  pas
T19  BVCCINTA:VCCINT30  pas
T20  BGNDD:GND145  pas
T21  BVCCINTA:VCCINT44  pas
T22  BGNDD:GND164  pas
T23  BVCCINTB:VCCINT54  pas
T24  BGNDE:GND184  pas
T25  BVCCINTB:VCCINT69  pas
T26  BGNDE:GND205  pas
T27  BVCCINTB:VCCINT83  pas
T28  BGNDE:GND226  pas
T29  B0:PROGRAM_B_0
T30  B0:CS_B_0
T31  B23:IO_L19N_23
T32  B23:IO_L18P_23
T33  BGNDF:GND269  pas
T34  B19:IO_L9P_CC_19
T35  B19:IO_L8N_CC_19
T36  B19:IO_L10N_CC_19
T37  B15:IO_L13P_15
T38  BGNDG:GND295  pas
T39  B15:IO_L14P_15
T40  B11:IO_L14P_11
T41  B11:IO_L14N_VREF_11
T42  B11:IO_L15P_SM13P_11
U1  B12:IO_L11P_CC_12
U2  B12:IO_L12N_VRP_12
U3  B12:IO_L12P_VRN_12
U4  B16:IO_L10P_CC_16
U5  BGNDA:GND27  pas
U6  B16:IO_L11P_CC_16
U7  B20:IO_L15P_20
U8  B20:IO_L16P_20
U9  B20:IO_L16N_20
U10  BGNDB:GND50  pas
U11  B20:IO_L17P_20
U12  BVCCAUX:VCCAUX2  pas
U13  BGNDB:GND74  pas
U14  B0:INIT_B_0
U15  BGNDC:GND92  pas
U16  BVCCINTA:VCCINT11  pas
U17  BGNDC:GND113  pas
U18  BVCCINTA:VCCINT24  pas
U19  BGNDC:GND135  pas
U20  BVCCINTA:VCCINT38  pas
U21  BGNDD:GND157  pas
U22  BVCCINTB:VCCINT50  pas
U23  BGNDD:GND174  pas
U24  BVCCINTB:VCCINT62  pas
U25  BGNDE:GND195  pas
U26  BVCCINTB:VCCINT77  pas
U27  BGNDE:GND216  pas
U28  BVCCINTB:VCCINT90  pas
U29  BGNDF:GND235  pas
U30  BVCCAUX:VCCAUX3  pas
U31  B23:IO_L19P_23
U32  B23:IO_L18N_23
U33  B19:IO_L9N_CC_19
U34  B19:IO_L8P_CC_19
U35  BGNDG:GND281  pas
U36  B19:IO_L11P_CC_19
U37  B15:IO_L12N_VRP_15
U38  B15:IO_L13N_15
U39  B15:IO_L14N_VREF_15
U40  B11:VCCO_111  pas
U41  B11:IO_L15N_SM13N_11
U42  B11:IO_L16P_SM12P_11
V1  B12:IO_L15N_12
V2  BGNDA:GND11  pas
V3  B12:IO_L13P_12
V4  B12:IO_L13N_12
V5  B16:IO_L11N_CC_16
V6  B16:IO_L13N_16
V7  B16:VCCO_162  pas
V8  B20:IO_L18N_20
V9  B20:IO_L18P_20
V10  B20:IO_L19N_20
V11  B20:IO_L19P_20
V12  BGNDB:GND64  pas
V13  BVCCINTA:VCCINT0  pas
V14  BGNDB:GND84  pas
V15  BVCCINTA:VCCINT7  pas
V16  BGNDC:GND104  pas
V17  BVCCINTA:VCCINT18  pas
V18  BGNDC:GND124  pas
V19  BVCCINTA:VCCINT31  pas
V20  BGNDD:GND146  pas
V21  BVCCINTA:VCCINT45  pas
V22  BGNDD:GND165  pas
V23  BVCCINTB:VCCINT55  pas
V24  BGNDE:GND185  pas
V25  BVCCINTB:VCCINT70  pas
V26  BGNDE:GND206  pas
V27  BVCCINTB:VCCINT84  pas
V28  BGNDE:GND227  pas
V29  BVCCAUX:VCCAUX17  pas
V30  BGNDF:GND245  pas
V31  B0:RSVD0
V32  BGNDF:GND262  pas
V33  B19:IO_L17P_19
V34  B19:IO_L16N_19
V35  B19:IO_L16P_19
V36  B19:IO_L11N_CC_19
V37  B11:VCCO_110  pas
V38  B15:IO_L12P_VRN_15
V39  B15:IO_L15P_15
V40  B11:IO_L17P_SM11P_11
V41  B11:IO_L16N_SM12N_11
V42  BGNDG:GND317  pas
W1  B12:IO_L15P_12
W2  B12:IO_L14P_12
W3  B12:IO_L14N_VREF_12
W4  B12:VCCO_120  pas
W5  B16:IO_L13P_16
W6  B16:IO_L14N_VREF_16
W7  B16:IO_L12P_VRN_16
W8  B16:IO_L12N_VRP_16
W9  BGNDA:GND45  pas
W10  B16:IO_L18N_16
W11  B16:IO_L18P_16
W12  BVCCAUX:VCCAUX4  pas
W13  BGNDB:GND75  pas
W14  BVCCINTA:VCCINT3  pas
W15  BGNDC:GND93  pas
W16  BVCCINTA:VCCINT12  pas
W17  BGNDC:GND114  pas
W18  BVCCINTA:VCCINT25  pas
W19  BGNDC:GND136  pas
W20  BVCCINTA:VCCINT39  pas
W21  BGNDD:GND158  pas
W22  BVCCINTB:VCCINT51  pas
W23  BGNDD:GND175  pas
W24  BVCCINTB:VCCINT63  pas
W25  BGNDE:GND196  pas
W26  BVCCINTB:VCCINT78  pas
W27  BGNDE:GND217  pas
W28  BVCCINTB:VCCINT91  pas
W29  BGNDF:GND236  pas
W30  BVCCAUX:VCCAUX5  pas
W31  BGNDF:GND254  pas
W32  B19:IO_L18N_19
W33  B19:IO_L17N_19
W34  BGNDG:GND277  pas
W35  B15:IO_L18N_15
W36  B15:IO_L19P_15
W37  B15:IO_L19N_15
W38  B15:IO_L15N_15
W39  BGNDG:GND300  pas
W40  B11:IO_L8P_CC_11
W41  B11:IO_L17N_SM11N_11
W42  B11:IO_L18P_SM10P_11
Y1  BGNDA:GND3  pas
Y2  B12:IO_L19P_12
Y3  B12:IO_L19N_12
Y4  B12:IO_L16N_12
Y5  B12:IO_L17P_12
Y6  BGNDA:GND32  pas
Y7  B16:IO_L14P_16
Y8  B16:IO_L16P_16
Y9  B16:IO_L17N_16
Y10  B16:IO_L17P_16
Y11  BGNDB:GND57  pas
Y12  BGNDB:GND65  pas
Y13  BVCCINTA:VCCINT1  pas
Y14  BGNDB:GND85  pas
Y15  BVCCINTA:VCCINT8  pas
Y16  BGNDC:GND105  pas
Y17  BVCCINTA:VCCINT19  pas
Y18  BGNDC:GND125  pas
Y19  BVCCINTA:VCCINT32  pas
Y20  BGNDD:GND147  pas
Y21  B0:AVSS_0
Y22  B0:AVDD_0
Y23  BVCCINTB:VCCINT56  pas
Y24  BGNDE:GND186  pas
Y25  BVCCINTB:VCCINT71  pas
Y26  BGNDE:GND207  pas
Y27  BVCCINTB:VCCINT85  pas
Y28  BGNDE:GND228  pas
Y29  BVCCINTB:VCCINT96  pas
Y30  BGNDF:GND246  pas
Y31  BVCCAUX:VCCAUX11  pas
Y32  B19:IO_L19P_19
Y33  B19:IO_L18P_19
Y34  B15:IO_L17N_15
Y35  B15:IO_L18P_15
Y36  BGNDG:GND286  pas
Y37  B11:IO_L11P_CC_SM14P_11
Y38  B11:IO_L10N_CC_SM15N_11
Y39  B11:IO_L10P_CC_SM15P_11
Y40  B11:IO_L8N_CC_11
Y41  B11:VCCO_112  pas
Y42  B11:IO_L18N_SM10N_11

## Footprint FF1760 (pad centres in mm)
smd 0.45 x 0.45: A2 -19.5,20.5; A3 -18.5,20.5; A4 -17.5,20.5; A5 -16.5,20.5; A6 -15.5,20.5; A7 -14.5,20.5; A8 -13.5,20.5; A9 -12.5,20.5; A10 -11.5,20.5; A11 -10.5,20.5; A12 -9.5,20.5; A13 -8.5,20.5; A14 -7.5,20.5; A15 -6.5,20.5; A16 -5.5,20.5; A17 -4.5,20.5; A18 -3.5,20.5; A19 -2.5,20.5; A20 -1.5,20.5; A21 -0.5,20.5; A22 0.5,20.5; A23 1.5,20.5; A24 2.5,20.5; A25 3.5,20.5; A26 4.5,20.5; A27 5.5,20.5; A28 6.5,20.5; A29 7.5,20.5; A30 8.5,20.5; A31 9.5,20.5; A32 10.5,20.5; A33 11.5,20.5; A34 12.5,20.5; A35 13.5,20.5; A36 14.5,20.5; A37 15.5,20.5; A38 16.5,20.5; A39 17.5,20.5; A40 18.5,20.5; A41 19.5,20.5; AA1 -20.5,0.5; AA2 -19.5,0.5; AA3 -18.5,0.5; AA4 -17.5,0.5; AA5 -16.5,0.5; AA6 -15.5,0.5; AA7 -14.5,0.5; AA8 -13.5,0.5; AA9 -12.5,0.5; AA10 -11.5,0.5; AA11 -10.5,0.5; AA12 -9.5,0.5; AA13 -8.5,0.5; AA14 -7.5,0.5; AA15 -6.5,0.5; AA16 -5.5,0.5; AA17 -4.5,0.5; AA18 -3.5,0.5; AA19 -2.5,0.5; AA20 -1.5,0.5; AA21 -0.5,0.5; AA22 0.5,0.5; AA23 1.5,0.5; AA24 2.5,0.5; AA25 3.5,0.5; AA26 4.5,0.5; AA27 5.5,0.5; AA28 6.5,0.5; AA29 7.5,0.5; AA30 8.5,0.5; AA31 9.5,0.5; AA32 10.5,0.5; AA33 11.5,0.5; AA34 12.5,0.5; AA35 13.5,0.5; AA36 14.5,0.5; AA37 15.5,0.5; AA38 16.5,0.5; AA39 17.5,0.5; AA40 18.5,0.5; AA41 19.5,0.5; AA42 20.5,0.5; AB1 -20.5,-0.5; AB2 -19.5,-0.5; AB3 -18.5,-0.5; AB4 -17.5,-0.5; AB5 -16.5,-0.5; AB6 -15.5,-0.5; AB7 -14.5,-0.5; AB8 -13.5,-0.5; AB9 -12.5,-0.5; AB10 -11.5,-0.5; AB11 -10.5,-0.5; AB12 -9.5,-0.5; AB13 -8.5,-0.5; AB14 -7.5,-0.5; AB15 -6.5,-0.5; AB16 -5.5,-0.5; AB17 -4.5,-0.5; AB18 -3.5,-0.5; AB19 -2.5,-0.5; AB20 -1.5,-0.5; AB21 -0.5,-0.5; AB22 0.5,-0.5; AB23 1.5,-0.5; AB24 2.5,-0.5; AB25 3.5,-0.5; AB26 4.5,-0.5; AB27 5.5,-0.5; AB28 6.5,-0.5; AB29 7.5,-0.5; AB30 8.5,-0.5; AB31 9.5,-0.5; AB32 10.5,-0.5; AB33 11.5,-0.5; AB34 12.5,-0.5; AB35 13.5,-0.5; AB36 14.5,-0.5; AB37 15.5,-0.5; AB38 16.5,-0.5; AB39 17.5,-0.5; AB40 18.5,-0.5; AB41 19.5,-0.5; AB42 20.5,-0.5; AC1 -20.5,-1.5; AC2 -19.5,-1.5; AC3 -18.5,-1.5; AC4 -17.5,-1.5; AC5 -16.5,-1.5; AC6 -15.5,-1.5; AC7 -14.5,-1.5; AC8 -13.5,-1.5; AC9 -12.5,-1.5; AC10 -11.5,-1.5; AC11 -10.5,-1.5; AC12 -9.5,-1.5; AC13 -8.5,-1.5; AC14 -7.5,-1.5; AC15 -6.5,-1.5; AC16 -5.5,-1.5; AC17 -4.5,-1.5; AC18 -3.5,-1.5; AC19 -2.5,-1.5; AC20 -1.5,-1.5; AC21 -0.5,-1.5; AC22 0.5,-1.5; AC23 1.5,-1.5; AC24 2.5,-1.5; AC25 3.5,-1.5; AC26 4.5,-1.5; AC27 5.5,-1.5; AC28 6.5,-1.5; AC29 7.5,-1.5; AC30 8.5,-1.5; AC31 9.5,-1.5; AC32 10.5,-1.5; AC33 11.5,-1.5; AC34 12.5,-1.5; AC35 13.5,-1.5; AC36 14.5,-1.5; AC37 15.5,-1.5; AC38 16.5,-1.5; AC39 17.5,-1.5; AC40 18.5,-1.5; AC41 19.5,-1.5; AC42 20.5,-1.5; AD1 -20.5,-2.5; AD2 -19.5,-2.5; AD3 -18.5,-2.5; AD4 -17.5,-2.5; AD5 -16.5,-2.5; AD6 -15.5,-2.5; AD7 -14.5,-2.5; AD8 -13.5,-2.5; AD9 -12.5,-2.5; AD10 -11.5,-2.5; AD11 -10.5,-2.5; AD12 -9.5,-2.5; AD13 -8.5,-2.5; AD14 -7.5,-2.5; AD15 -6.5,-2.5; AD16 -5.5,-2.5; AD17 -4.5,-2.5; AD18 -3.5,-2.5; AD19 -2.5,-2.5; AD20 -1.5,-2.5; AD21 -0.5,-2.5; AD22 0.5,-2.5; AD23 1.5,-2.5; AD24 2.5,-2.5; AD25 3.5,-2.5; AD26 4.5,-2.5; AD27 5.5,-2.5; AD28 6.5,-2.5; AD29 7.5,-2.5; AD30 8.5,-2.5; AD31 9.5,-2.5; AD32 10.5,-2.5; AD33 11.5,-2.5; AD34 12.5,-2.5; AD35 13.5,-2.5; AD36 14.5,-2.5; AD37 15.5,-2.5; AD38 16.5,-2.5; AD39 17.5,-2.5; AD40 18.5,-2.5; AD41 19.5,-2.5; AD42 20.5,-2.5; AE1 -20.5,-3.5; AE2 -19.5,-3.5; AE3 -18.5,-3.5; AE4 -17.5,-3.5; AE5 -16.5,-3.5; AE6 -15.5,-3.5; AE7 -14.5,-3.5; AE8 -13.5,-3.5; AE9 -12.5,-3.5; AE10 -11.5,-3.5; AE11 -10.5,-3.5; AE12 -9.5,-3.5; AE13 -8.5,-3.5; AE14 -7.5,-3.5; AE15 -6.5,-3.5; AE16 -5.5,-3.5; AE17 -4.5,-3.5; AE18 -3.5,-3.5; AE19 -2.5,-3.5; AE20 -1.5,-3.5; AE21 -0.5,-3.5; AE22 0.5,-3.5; AE23 1.5,-3.5; AE24 2.5,-3.5; AE25 3.5,-3.5; AE26 4.5,-3.5; AE27 5.5,-3.5; AE28 6.5,-3.5; AE29 7.5,-3.5; AE30 8.5,-3.5; AE31 9.5,-3.5; AE32 10.5,-3.5; AE33 11.5,-3.5; AE34 12.5,-3.5; AE35 13.5,-3.5; AE36 14.5,-3.5; AE37 15.5,-3.5; AE38 16.5,-3.5; AE39 17.5,-3.5; AE40 18.5,-3.5; AE41 19.5,-3.5; AE42 20.5,-3.5; AF1 -20.5,-4.5; AF2 -19.5,-4.5; AF3 -18.5,-4.5; AF4 -17.5,-4.5; AF5 -16.5,-4.5; AF6 -15.5,-4.5; AF7 -14.5,-4.5; AF8 -13.5,-4.5; AF9 -12.5,-4.5; AF10 -11.5,-4.5; AF11 -10.5,-4.5; AF12 -9.5,-4.5; AF13 -8.5,-4.5; AF14 -7.5,-4.5; AF15 -6.5,-4.5; AF16 -5.5,-4.5; AF17 -4.5,-4.5; AF18 -3.5,-4.5; AF19 -2.5,-4.5; AF20 -1.5,-4.5; AF21 -0.5,-4.5; AF22 0.5,-4.5; AF23 1.5,-4.5; AF24 2.5,-4.5; AF25 3.5,-4.5; AF26 4.5,-4.5; AF27 5.5,-4.5; AF28 6.5,-4.5; AF29 7.5,-4.5; AF30 8.5,-4.5; AF31 9.5,-4.5; AF32 10.5,-4.5; AF33 11.5,-4.5; AF34 12.5,-4.5; AF35 13.5,-4.5; AF36 14.5,-4.5; AF37 15.5,-4.5; AF38 16.5,-4.5; AF39 17.5,-4.5; AF40 18.5,-4.5; AF41 19.5,-4.5; AF42 20.5,-4.5; AG1 -20.5,-5.5; AG2 -19.5,-5.5; AG3 -18.5,-5.5; AG4 -17.5,-5.5; AG5 -16.5,-5.5; AG6 -15.5,-5.5; AG7 -14.5,-5.5; AG8 -13.5,-5.5; AG9 -12.5,-5.5; AG10 -11.5,-5.5; AG11 -10.5,-5.5; AG12 -9.5,-5.5; AG13 -8.5,-5.5; AG14 -7.5,-5.5; AG15 -6.5,-5.5; AG16 -5.5,-5.5; AG17 -4.5,-5.5; AG18 -3.5,-5.5; AG19 -2.5,-5.5; AG20 -1.5,-5.5; AG21 -0.5,-5.5; AG22 0.5,-5.5; AG23 1.5,-5.5; AG24 2.5,-5.5; AG25 3.5,-5.5; AG26 4.5,-5.5; AG27 5.5,-5.5; AG28 6.5,-5.5; AG29 7.5,-5.5; AG30 8.5,-5.5; AG31 9.5,-5.5; AG32 10.5,-5.5; AG33 11.5,-5.5; AG34 12.5,-5.5; AG35 13.5,-5.5; AG36 14.5,-5.5; AG37 15.5,-5.5; AG38 16.5,-5.5; AG39 17.5,-5.5; AG40 18.5,-5.5; AG41 19.5,-5.5; AG42 20.5,-5.5; AH1 -20.5,-6.5; AH2 -19.5,-6.5; AH3 -18.5,-6.5; AH4 -17.5,-6.5; AH5 -16.5,-6.5; AH6 -15.5,-6.5; AH7 -14.5,-6.5; AH8 -13.5,-6.5; AH9 -12.5,-6.5; AH10 -11.5,-6.5; AH11 -10.5,-6.5; AH12 -9.5,-6.5; AH13 -8.5,-6.5; AH14 -7.5,-6.5; AH15 -6.5,-6.5; AH16 -5.5,-6.5; AH17 -4.5,-6.5; AH18 -3.5,-6.5; AH19 -2.5,-6.5; AH20 -1.5,-6.5; AH21 -0.5,-6.5; AH22 0.5,-6.5; AH23 1.5,-6.5; AH24 2.5,-6.5; AH25 3.5,-6.5; AH26 4.5,-6.5; AH27 5.5,-6.5; AH28 6.5,-6.5; AH29 7.5,-6.5; AH30 8.5,-6.5; AH31 9.5,-6.5; AH32 10.5,-6.5; AH33 11.5,-6.5; AH34 12.5,-6.5; AH35 13.5,-6.5; AH36 14.5,-6.5; AH37 15.5,-6.5; AH38 16.5,-6.5; AH39 17.5,-6.5; AH40 18.5,-6.5; AH41 19.5,-6.5; AH42 20.5,-6.5; AJ1 -20.5,-7.5; AJ2 -19.5,-7.5; AJ3 -18.5,-7.5; AJ4 -17.5,-7.5; AJ5 -16.5,-7.5; AJ6 -15.5,-7.5; AJ7 -14.5,-7.5; AJ8 -13.5,-7.5; AJ9 -12.5,-7.5; AJ10 -11.5,-7.5; AJ11 -10.5,-7.5; AJ12 -9.5,-7.5; AJ13 -8.5,-7.5; AJ14 -7.5,-7.5; AJ15 -6.5,-7.5; AJ16 -5.5,-7.5; AJ17 -4.5,-7.5; AJ18 -3.5,-7.5; AJ19 -2.5,-7.5; AJ20 -1.5,-7.5; AJ21 -0.5,-7.5; AJ22 0.5,-7.5; AJ23 1.5,-7.5; AJ24 2.5,-7.5; AJ25 3.5,-7.5; AJ26 4.5,-7.5; AJ27 5.5,-7.5; AJ28 6.5,-7.5; AJ29 7.5,-7.5; AJ30 8.5,-7.5; AJ31 9.5,-7.5; AJ32 10.5,-7.5; AJ33 11.5,-7.5; AJ34 12.5,-7.5; AJ35 13.5,-7.5; AJ36 14.5,-7.5; AJ37 15.5,-7.5; AJ38 16.5,-7.5; AJ39 17.5,-7.5; AJ40 18.5,-7.5; AJ41 19.5,-7.5; AJ42 20.5,-7.5; AK1 -20.5,-8.5; AK2 -19.5,-8.5; AK3 -18.5,-8.5; AK4 -17.5,-8.5; AK5 -16.5,-8.5; AK6 -15.5,-8.5; AK7 -14.5,-8.5; AK8 -13.5,-8.5; AK9 -12.5,-8.5; AK10 -11.5,-8.5; AK11 -10.5,-8.5; AK12 -9.5,-8.5; AK13 -8.5,-8.5; AK14 -7.5,-8.5; AK15 -6.5,-8.5; AK16 -5.5,-8.5; AK17 -4.5,-8.5; AK18 -3.5,-8.5; AK19 -2.5,-8.5; AK20 -1.5,-8.5; AK21 -0.5,-8.5; AK22 0.5,-8.5; AK23 1.5,-8.5; AK24 2.5,-8.5; AK25 3.5,-8.5; AK26 4.5,-8.5; AK27 5.5,-8.5; AK28 6.5,-8.5; AK29 7.5,-8.5; AK30 8.5,-8.5; AK31 9.5,-8.5; AK32 10.5,-8.5; AK33 11.5,-8.5; AK34 12.5,-8.5; AK35 13.5,-8.5; AK36 14.5,-8.5; AK37 15.5,-8.5; AK38 16.5,-8.5; AK39 17.5,-8.5; AK40 18.5,-8.5; AK41 19.5,-8.5; AK42 20.5,-8.5; AL1 -20.5,-9.5; AL2 -19.5,-9.5; AL3 -18.5,-9.5; AL4 -17.5,-9.5; AL5 -16.5,-9.5; AL6 -15.5,-9.5; AL7 -14.5,-9.5; AL8 -13.5,-9.5; AL9 -12.5,-9.5; AL10 -11.5,-9.5; AL11 -10.5,-9.5; AL12 -9.5,-9.5; AL13 -8.5,-9.5; AL14 -7.5,-9.5; AL15 -6.5,-9.5; AL16 -5.5,-9.5; AL17 -4.5,-9.5; AL18 -3.5,-9.5; AL19 -2.5,-9.5; AL20 -1.5,-9.5; AL21 -0.5,-9.5; AL22 0.5,-9.5; AL23 1.5,-9.5; AL24 2.5,-9.5; AL25 3.5,-9.5; AL26 4.5,-9.5; AL27 5.5,-9.5; AL28 6.5,-9.5; AL29 7.5,-9.5; AL30 8.5,-9.5; AL31 9.5,-9.5; AL32 10.5,-9.5; AL33 11.5,-9.5; AL34 12.5,-9.5; AL35 13.5,-9.5; AL36 14.5,-9.5; AL37 15.5,-9.5; AL38 16.5,-9.5; AL39 17.5,-9.5; AL40 18.5,-9.5; AL41 19.5,-9.5; AL42 20.5,-9.5; AM1 -20.5,-10.5; AM2 -19.5,-10.5; AM3 -18.5,-10.5; AM4 -17.5,-10.5; AM5 -16.5,-10.5; AM6 -15.5,-10.5; AM7 -14.5,-10.5; AM8 -13.5,-10.5; AM9 -12.5,-10.5; AM10 -11.5,-10.5; AM11 -10.5,-10.5; AM12 -9.5,-10.5; AM13 -8.5,-10.5; AM14 -7.5,-10.5; AM15 -6.5,-10.5; AM16 -5.5,-10.5; AM17 -4.5,-10.5; AM18 -3.5,-10.5; AM19 -2.5,-10.5; AM20 -1.5,-10.5; AM21 -0.5,-10.5; AM22 0.5,-10.5; AM23 1.5,-10.5; AM24 2.5,-10.5; AM25 3.5,-10.5; AM26 4.5,-10.5; AM27 5.5,-10.5; AM28 6.5,-10.5; AM29 7.5,-10.5; AM30 8.5,-10.5; AM31 9.5,-10.5; AM32 10.5,-10.5; AM33 11.5,-10.5; AM34 12.5,-10.5; AM35 13.5,-10.5; AM36 14.5,-10.5; AM37 15.5,-10.5; AM38 16.5,-10.5; AM39 17.5,-10.5; AM40 18.5,-10.5; AM41 19.5,-10.5; AM42 20.5,-10.5; AN1 -20.5,-11.5; AN2 -19.5,-11.5; AN3 -18.5,-11.5; AN4 -17.5,-11.5; AN5 -16.5,-11.5; AN6 -15.5,-11.5; AN7 -14.5,-11.5; AN8 -13.5,-11.5; AN9 -12.5,-11.5; AN10 -11.5,-11.5; AN11 -10.5,-11.5; AN12 -9.5,-11.5; AN13 -8.5,-11.5; AN14 -7.5,-11.5; AN15 -6.5,-11.5; AN16 -5.5,-11.5; AN17 -4.5,-11.5; AN18 -3.5,-11.5; AN19 -2.5,-11.5; AN20 -1.5,-11.5; AN21 -0.5,-11.5; AN22 0.5,-11.5; AN23 1.5,-11.5; AN24 2.5,-11.5; AN25 3.5,-11.5; AN26 4.5,-11.5; AN27 5.5,-11.5; AN28 6.5,-11.5; AN29 7.5,-11.5; AN30 8.5,-11.5; AN31 9.5,-11.5; AN32 10.5,-11.5; AN33 11.5,-11.5; AN34 12.5,-11.5; AN35 13.5,-11.5; AN36 14.5,-11.5; AN37 15.5,-11.5; AN38 16.5,-11.5; AN39 17.5,-11.5; AN40 18.5,-11.5; AN41 19.5,-11.5; AN42 20.5,-11.5; AP1 -20.5,-12.5; AP2 -19.5,-12.5; AP3 -18.5,-12.5; AP4 -17.5,-12.5; AP5 -16.5,-12.5; AP6 -15.5,-12.5; AP7 -14.5,-12.5; AP8 -13.5,-12.5; AP9 -12.5,-12.5; AP10 -11.5,-12.5; AP11 -10.5,-12.5; AP12 -9.5,-12.5; AP13 -8.5,-12.5; AP14 -7.5,-12.5; AP15 -6.5,-12.5; AP16 -5.5,-12.5; AP17 -4.5,-12.5; AP18 -3.5,-12.5; AP19 -2.5,-12.5; AP20 -1.5,-12.5; AP21 -0.5,-12.5; AP22 0.5,-12.5; AP23 1.5,-12.5; AP24 2.5,-12.5; AP25 3.5,-12.5; AP26 4.5,-12.5; AP27 5.5,-12.5; AP28 6.5,-12.5; AP29 7.5,-12.5; AP30 8.5,-12.5; AP31 9.5,-12.5; AP32 10.5,-12.5; AP33 11.5,-12.5; AP34 12.5,-12.5; AP35 13.5,-12.5; AP36 14.5,-12.5; AP37 15.5,-12.5; AP38 16.5,-12.5; AP39 17.5,-12.5; AP40 18.5,-12.5; AP41 19.5,-12.5; AP42 20.5,-12.5; AR1 -20.5,-13.5; AR2 -19.5,-13.5; AR3 -18.5,-13.5; AR4 -17.5,-13.5; AR5 -16.5,-13.5; AR6 -15.5,-13.5; AR7 -14.5,-13.5; AR8 -13.5,-13.5; AR9 -12.5,-13.5; AR10 -11.5,-13.5; AR11 -10.5,-13.5; AR12 -9.5,-13.5; AR13 -8.5,-13.5; AR14 -7.5,-13.5; AR15 -6.5,-13.5; AR16 -5.5,-13.5; AR17 -4.5,-13.5; AR18 -3.5,-13.5; AR19 -2.5,-13.5; AR20 -1.5,-13.5; AR21 -0.5,-13.5; AR22 0.5,-13.5; AR23 1.5,-13.5; AR24 2.5,-13.5; AR25 3.5,-13.5; AR26 4.5,-13.5; AR27 5.5,-13.5; AR28 6.5,-13.5; AR29 7.5,-13.5; AR30 8.5,-13.5; AR31 9.5,-13.5; AR32 10.5,-13.5; AR33 11.5,-13.5; AR34 12.5,-13.5; AR35 13.5,-13.5; AR36 14.5,-13.5; AR37 15.5,-13.5; AR38 16.5,-13.5; AR39 17.5,-13.5; AR40 18.5,-13.5; AR41 19.5,-13.5; AR42 20.5,-13.5; AT1 -20.5,-14.5; AT2 -19.5,-14.5; AT3 -18.5,-14.5; AT4 -17.5,-14.5; AT5 -16.5,-14.5; AT6 -15.5,-14.5; AT7 -14.5,-14.5; AT8 -13.5,-14.5; AT9 -12.5,-14.5; AT10 -11.5,-14.5; AT11 -10.5,-14.5; AT12 -9.5,-14.5; AT13 -8.5,-14.5; AT14 -7.5,-14.5; AT15 -6.5,-14.5; AT16 -5.5,-14.5; AT17 -4.5,-14.5; AT18 -3.5,-14.5; AT19 -2.5,-14.5; AT20 -1.5,-14.5; AT21 -0.5,-14.5; AT22 0.5,-14.5; AT23 1.5,-14.5; AT24 2.5,-14.5; AT25 3.5,-14.5; AT26 4.5,-14.5; AT27 5.5,-14.5; AT28 6.5,-14.5; AT29 7.5,-14.5; AT30 8.5,-14.5; AT31 9.5,-14.5; AT32 10.5,-14.5; AT33 11.5,-14.5; AT34 12.5,-14.5; AT35 13.5,-14.5; AT36 14.5,-14.5; AT37 15.5,-14.5; AT38 16.5,-14.5; AT39 17.5,-14.5; AT40 18.5,-14.5; AT41 19.5,-14.5; AT42 20.5,-14.5; AU1 -20.5,-15.5; AU2 -19.5,-15.5; AU3 -18.5,-15.5; AU4 -17.5,-15.5; AU5 -16.5,-15.5; AU6 -15.5,-15.5; AU7 -14.5,-15.5; AU8 -13.5,-15.5; AU9 -12.5,-15.5; AU10 -11.5,-15.5; AU11 -10.5,-15.5; AU12 -9.5,-15.5; AU13 -8.5,-15.5; AU14 -7.5,-15.5; AU15 -6.5,-15.5; AU16 -5.5,-15.5; AU17 -4.5,-15.5; AU18 -3.5,-15.5; AU19 -2.5,-15.5; AU20 -1.5,-15.5; AU21 -0.5,-15.5; AU22 0.5,-15.5; AU23 1.5,-15.5; AU24 2.5,-15.5; AU25 3.5,-15.5; AU26 4.5,-15.5; AU27 5.5,-15.5; AU28 6.5,-15.5; AU29 7.5,-15.5; AU30 8.5,-15.5; AU31 9.5,-15.5; AU32 10.5,-15.5; AU33 11.5,-15.5; AU34 12.5,-15.5; AU35 13.5,-15.5; AU36 14.5,-15.5; AU37 15.5,-15.5; AU38 16.5,-15.5; AU39 17.5,-15.5; AU40 18.5,-15.5; AU41 19.5,-15.5; AU42 20.5,-15.5; AV1 -20.5,-16.5; AV2 -19.5,-16.5; AV3 -18.5,-16.5; AV4 -17.5,-16.5; AV5 -16.5,-16.5; AV6 -15.5,-16.5; AV7 -14.5,-16.5; AV8 -13.5,-16.5; AV9 -12.5,-16.5; AV10 -11.5,-16.5; AV11 -10.5,-16.5; AV12 -9.5,-16.5; AV13 -8.5,-16.5; AV14 -7.5,-16.5; AV15 -6.5,-16.5; AV16 -5.5,-16.5; AV17 -4.5,-16.5; AV18 -3.5,-16.5; AV19 -2.5,-16.5; AV20 -1.5,-16.5; AV21 -0.5,-16.5; AV22 0.5,-16.5; AV23 1.5,-16.5; AV24 2.5,-16.5; AV25 3.5,-16.5; AV26 4.5,-16.5; AV27 5.5,-16.5; AV28 6.5,-16.5; AV29 7.5,-16.5; AV30 8.5,-16.5; AV31 9.5,-16.5; AV32 10.5,-16.5; AV33 11.5,-16.5; AV34 12.5,-16.5; AV35 13.5,-16.5; AV36 14.5,-16.5; AV37 15.5,-16.5; AV38 16.5,-16.5; AV39 17.5,-16.5; AV40 18.5,-16.5; AV41 19.5,-16.5; AV42 20.5,-16.5; AW1 -20.5,-17.5; AW2 -19.5,-17.5; AW3 -18.5,-17.5; AW4 -17.5,-17.5; AW5 -16.5,-17.5; AW6 -15.5,-17.5; AW7 -14.5,-17.5; AW8 -13.5,-17.5; AW9 -12.5,-17.5; AW10 -11.5,-17.5; AW11 -10.5,-17.5; AW12 -9.5,-17.5; AW13 -8.5,-17.5; AW14 -7.5,-17.5; AW15 -6.5,-17.5; AW16 -5.5,-17.5; AW17 -4.5,-17.5; AW18 -3.5,-17.5; AW19 -2.5,-17.5; AW20 -1.5,-17.5; AW21 -0.5,-17.5; AW22 0.5,-17.5; AW23 1.5,-17.5; AW24 2.5,-17.5; AW25 3.5,-17.5; AW26 4.5,-17.5; AW27 5.5,-17.5; AW28 6.5,-17.5; AW29 7.5,-17.5; AW30 8.5,-17.5; AW31 9.5,-17.5; AW32 10.5,-17.5; AW33 11.5,-17.5; AW34 12.5,-17.5; AW35 13.5,-17.5; AW36 14.5,-17.5; AW37 15.5,-17.5; AW38 16.5,-17.5; AW39 17.5,-17.5; AW40 18.5,-17.5; AW41 19.5,-17.5; AW42 20.5,-17.5; AY1 -20.5,-18.5; AY2 -19.5,-18.5; AY3 -18.5,-18.5; AY4 -17.5,-18.5; AY5 -16.5,-18.5; AY6 -15.5,-18.5; AY7 -14.5,-18.5; AY8 -13.5,-18.5; AY9 -12.5,-18.5; AY10 -11.5,-18.5; AY11 -10.5,-18.5; AY12 -9.5,-18.5; AY13 -8.5,-18.5; AY14 -7.5,-18.5; AY15 -6.5,-18.5; AY16 -5.5,-18.5; AY17 -4.5,-18.5; AY18 -3.5,-18.5; AY19 -2.5,-18.5; AY20 -1.5,-18.5; AY21 -0.5,-18.5; AY22 0.5,-18.5; AY23 1.5,-18.5; AY24 2.5,-18.5; AY25 3.5,-18.5; AY26 4.5,-18.5; AY27 5.5,-18.5; AY28 6.5,-18.5; AY29 7.5,-18.5; AY30 8.5,-18.5; AY31 9.5,-18.5; AY32 10.5,-18.5; AY33 11.5,-18.5; AY34 12.5,-18.5; AY35 13.5,-18.5; AY36 14.5,-18.5; AY37 15.5,-18.5; AY38 16.5,-18.5; AY39 17.5,-18.5; AY40 18.5,-18.5; AY41 19.5,-18.5; AY42 20.5,-18.5; B1 -20.5,19.5; B2 -19.5,19.5; B3 -18.5,19.5; B4 -17.5,19.5; B5 -16.5,19.5; B6 -15.5,19.5; B7 -14.5,19.5; B8 -13.5,19.5; B9 -12.5,19.5; B10 -11.5,19.5; B11 -10.5,19.5; B12 -9.5,19.5; B13 -8.5,19.5; B14 -7.5,19.5; B15 -6.5,19.5; B16 -5.5,19.5; B17 -4.5,19.5; B18 -3.5,19.5; B19 -2.5,19.5; B20 -1.5,19.5; B21 -0.5,19.5; B22 0.5,19.5; B23 1.5,19.5; B24 2.5,19.5; B25 3.5,19.5; B26 4.5,19.5; B27 5.5,19.5; B28 6.5,19.5; B29 7.5,19.5; B30 8.5,19.5; B31 9.5,19.5; B32 10.5,19.5; B33 11.5,19.5; B34 12.5,19.5; B35 13.5,19.5; B36 14.5,19.5; B37 15.5,19.5; B38 16.5,19.5; B39 17.5,19.5; B40 18.5,19.5; B41 19.5,19.5; B42 20.5,19.5; BA1 -20.5,-19.5; BA2 -19.5,-19.5; BA3 -18.5,-19.5; BA4 -17.5,-19.5; BA5 -16.5,-19.5; BA6 -15.5,-19.5; BA7 -14.5,-19.5; BA8 -13.5,-19.5; BA9 -12.5,-19.5; BA10 -11.5,-19.5; BA11 -10.5,-19.5; BA12 -9.5,-19.5; BA13 -8.5,-19.5; BA14 -7.5,-19.5; BA15 -6.5,-19.5; BA16 -5.5,-19.5; BA17 -4.5,-19.5; BA18 -3.5,-19.5; BA19 -2.5,-19.5; BA20 -1.5,-19.5; BA21 -0.5,-19.5; BA22 0.5,-19.5; BA23 1.5,-19.5; BA24 2.5,-19.5; BA25 3.5,-19.5; BA26 4.5,-19.5; BA27 5.5,-19.5; BA28 6.5,-19.5; BA29 7.5,-19.5; BA30 8.5,-19.5; BA31 9.5,-19.5; BA32 10.5,-19.5; BA33 11.5,-19.5; BA34 12.5,-19.5; BA35 13.5,-19.5; BA36 14.5,-19.5; BA37 15.5,-19.5; BA38 16.5,-19.5; BA39 17.5,-19.5; BA40 18.5,-19.5; BA41 19.5,-19.5; BA42 20.5,-19.5; BB2 -19.5,-20.5; BB3 -18.5,-20.5; BB4 -17.5,-20.5; BB5 -16.5,-20.5; BB6 -15.5,-20.5; BB7 -14.5,-20.5; BB8 -13.5,-20.5; BB9 -12.5,-20.5; BB10 -11.5,-20.5; BB11 -10.5,-20.5; BB12 -9.5,-20.5; BB13 -8.5,-20.5; BB14 -7.5,-20.5; BB15 -6.5,-20.5; BB16 -5.5,-20.5; BB17 -4.5,-20.5; BB18 -3.5,-20.5; BB19 -2.5,-20.5; BB20 -1.5,-20.5; BB21 -0.5,-20.5; BB22 0.5,-20.5; BB23 1.5,-20.5; BB24 2.5,-20.5; BB25 3.5,-20.5; BB26 4.5,-20.5; BB27 5.5,-20.5; BB28 6.5,-20.5; BB29 7.5,-20.5; BB30 8.5,-20.5; BB31 9.5,-20.5; BB32 10.5,-20.5; BB33 11.5,-20.5; BB34 12.5,-20.5; BB35 13.5,-20.5; BB36 14.5,-20.5; BB37 15.5,-20.5; BB38 16.5,-20.5; BB39 17.5,-20.5; BB40 18.5,-20.5; BB41 19.5,-20.5; C1 -20.5,18.5; C2 -19.5,18.5; C3 -18.5,18.5; C4 -17.5,18.5; C5 -16.5,18.5; C6 -15.5,18.5; C7 -14.5,18.5; C8 -13.5,18.5; C9 -12.5,18.5; C10 -11.5,18.5; C11 -10.5,18.5; C12 -9.5,18.5; C13 -8.5,18.5; C14 -7.5,18.5; C15 -6.5,18.5; C16 -5.5,18.5; C17 -4.5,18.5; C18 -3.5,18.5; C19 -2.5,18.5; C20 -1.5,18.5; C21 -0.5,18.5; C22 0.5,18.5; C23 1.5,18.5; C24 2.5,18.5; C25 3.5,18.5; C26 4.5,18.5; C27 5.5,18.5; C28 6.5,18.5; C29 7.5,18.5; C30 8.5,18.5; C31 9.5,18.5; C32 10.5,18.5; C33 11.5,18.5; C34 12.5,18.5; C35 13.5,18.5; C36 14.5,18.5; C37 15.5,18.5; C38 16.5,18.5; C39 17.5,18.5; C40 18.5,18.5; C41 19.5,18.5; C42 20.5,18.5; D1 -20.5,17.5; D2 -19.5,17.5; D3 -18.5,17.5; D4 -17.5,17.5; D5 -16.5,17.5; D6 -15.5,17.5; D7 -14.5,17.5; D8 -13.5,17.5; D9 -12.5,17.5; D10 -11.5,17.5; D11 -10.5,17.5; D12 -9.5,17.5; D13 -8.5,17.5; D14 -7.5,17.5; D15 -6.5,17.5; D16 -5.5,17.5; D17 -4.5,17.5; D18 -3.5,17.5; D19 -2.5,17.5; D20 -1.5,17.5; D21 -0.5,17.5; D22 0.5,17.5; D23 1.5,17.5; D24 2.5,17.5; D25 3.5,17.5; D26 4.5,17.5; D27 5.5,17.5; D28 6.5,17.5; D29 7.5,17.5; D30 8.5,17.5; D31 9.5,17.5; D32 10.5,17.5; D33 11.5,17.5; D34 12.5,17.5; D35 13.5,17.5; D36 14.5,17.5; D37 15.5,17.5; D38 16.5,17.5; D39 17.5,17.5; D40 18.5,17.5; D41 19.5,17.5; D42 20.5,17.5; E1 -20.5,16.5; E2 -19.5,16.5; E3 -18.5,16.5; E4 -17.5,16.5; E5 -16.5,16.5; E6 -15.5,16.5; E7 -14.5,16.5; E8 -13.5,16.5; E9 -12.5,16.5; E10 -11.5,16.5; E11 -10.5,16.5; E12 -9.5,16.5; E13 -8.5,16.5; E14 -7.5,16.5; E15 -6.5,16.5; E16 -5.5,16.5; E17 -4.5,16.5; E18 -3.5,16.5; E19 -2.5,16.5; E20 -1.5,16.5; E21 -0.5,16.5; E22 0.5,16.5; E23 1.5,16.5; E24 2.5,16.5; E25 3.5,16.5; E26 4.5,16.5; E27 5.5,16.5; E28 6.5,16.5; E29 7.5,16.5; E30 8.5,16.5; E31 9.5,16.5; E32 10.5,16.5; E33 11.5,16.5; E34 12.5,16.5; E35 13.5,16.5; E36 14.5,16.5; E37 15.5,16.5; E38 16.5,16.5; E39 17.5,16.5; E40 18.5,16.5; E41 19.5,16.5; E42 20.5,16.5; F1 -20.5,15.5; F2 -19.5,15.5; F3 -18.5,15.5; F4 -17.5,15.5; F5 -16.5,15.5; F6 -15.5,15.5; F7 -14.5,15.5; F8 -13.5,15.5; F9 -12.5,15.5; F10 -11.5,15.5; F11 -10.5,15.5; F12 -9.5,15.5; F13 -8.5,15.5; F14 -7.5,15.5; F15 -6.5,15.5; F16 -5.5,15.5; F17 -4.5,15.5; F18 -3.5,15.5; F19 -2.5,15.5; F20 -1.5,15.5; F21 -0.5,15.5; F22 0.5,15.5; F23 1.5,15.5; F24 2.5,15.5; F25 3.5,15.5; F26 4.5,15.5; F27 5.5,15.5; F28 6.5,15.5; F29 7.5,15.5; F30 8.5,15.5; F31 9.5,15.5; F32 10.5,15.5; F33 11.5,15.5; F34 12.5,15.5; F35 13.5,15.5; F36 14.5,15.5; F37 15.5,15.5; F38 16.5,15.5; F39 17.5,15.5; F40 18.5,15.5; F41 19.5,15.5; F42 20.5,15.5; G1 -20.5,14.5; G2 -19.5,14.5; G3 -18.5,14.5; G4 -17.5,14.5; G5 -16.5,14.5; G6 -15.5,14.5; G7 -14.5,14.5; G8 -13.5,14.5; G9 -12.5,14.5; G10 -11.5,14.5; G11 -10.5,14.5; G12 -9.5,14.5; G13 -8.5,14.5; G14 -7.5,14.5; G15 -6.5,14.5; G16 -5.5,14.5; G17 -4.5,14.5; G18 -3.5,14.5; G19 -2.5,14.5; G20 -1.5,14.5; G21 -0.5,14.5; G22 0.5,14.5; G23 1.5,14.5; G24 2.5,14.5; G25 3.5,14.5; G26 4.5,14.5; G27 5.5,14.5; G28 6.5,14.5; G29 7.5,14.5; G30 8.5,14.5; G31 9.5,14.5; G32 10.5,14.5; G33 11.5,14.5; G34 12.5,14.5; G35 13.5,14.5; G36 14.5,14.5; G37 15.5,14.5; G38 16.5,14.5; G39 17.5,14.5; G40 18.5,14.5; G41 19.5,14.5; G42 20.5,14.5; H1 -20.5,13.5; H2 -19.5,13.5; H3 -18.5,13.5; H4 -17.5,13.5; H5 -16.5,13.5; H6 -15.5,13.5; H7 -14.5,13.5; H8 -13.5,13.5; H9 -12.5,13.5; H10 -11.5,13.5; H11 -10.5,13.5; H12 -9.5,13.5; H13 -8.5,13.5; H14 -7.5,13.5; H15 -6.5,13.5; H16 -5.5,13.5; H17 -4.5,13.5; H18 -3.5,13.5; H19 -2.5,13.5; H20 -1.5,13.5; H21 -0.5,13.5; H22 0.5,13.5; H23 1.5,13.5; H24 2.5,13.5; H25 3.5,13.5; H26 4.5,13.5; H27 5.5,13.5; H28 6.5,13.5; H29 7.5,13.5; H30 8.5,13.5; H31 9.5,13.5; H32 10.5,13.5; H33 11.5,13.5; H34 12.5,13.5; H35 13.5,13.5; H36 14.5,13.5; H37 15.5,13.5; H38 16.5,13.5; H39 17.5,13.5; H40 18.5,13.5; H41 19.5,13.5; H42 20.5,13.5; J1 -20.5,12.5; J2 -19.5,12.5; J3 -18.5,12.5; J4 -17.5,12.5; J5 -16.5,12.5; J6 -15.5,12.5; J7 -14.5,12.5; J8 -13.5,12.5; J9 -12.5,12.5; J10 -11.5,12.5; J11 -10.5,12.5; J12 -9.5,12.5; J13 -8.5,12.5; J14 -7.5,12.5; J15 -6.5,12.5; J16 -5.5,12.5; J17 -4.5,12.5; J18 -3.5,12.5; J19 -2.5,12.5; J20 -1.5,12.5; J21 -0.5,12.5; J22 0.5,12.5; J23 1.5,12.5; J24 2.5,12.5; J25 3.5,12.5; J26 4.5,12.5; J27 5.5,12.5; J28 6.5,12.5; J29 7.5,12.5; J30 8.5,12.5; J31 9.5,12.5; J32 10.5,12.5; J33 11.5,12.5; J34 12.5,12.5; J35 13.5,12.5; J36 14.5,12.5; J37 15.5,12.5; J38 16.5,12.5; J39 17.5,12.5; J40 18.5,12.5; J41 19.5,12.5; J42 20.5,12.5; K1 -20.5,11.5; K2 -19.5,11.5; K3 -18.5,11.5; K4 -17.5,11.5; K5 -16.5,11.5; K6 -15.5,11.5; K7 -14.5,11.5; K8 -13.5,11.5; K9 -12.5,11.5; K10 -11.5,11.5; K11 -10.5,11.5; K12 -9.5,11.5; K13 -8.5,11.5; K14 -7.5,11.5; K15 -6.5,11.5; K16 -5.5,11.5; K17 -4.5,11.5; K18 -3.5,11.5; K19 -2.5,11.5; K20 -1.5,11.5; K21 -0.5,11.5; K22 0.5,11.5; K23 1.5,11.5; K24 2.5,11.5; K25 3.5,11.5; K26 4.5,11.5; K27 5.5,11.5; K28 6.5,11.5; K29 7.5,11.5; K30 8.5,11.5; K31 9.5,11.5; K32 10.5,11.5; K33 11.5,11.5; K34 12.5,11.5; K35 13.5,11.5; K36 14.5,11.5; K37 15.5,11.5; K38 16.5,11.5; K39 17.5,11.5; K40 18.5,11.5; K41 19.5,11.5; K42 20.5,11.5; L1 -20.5,10.5; L2 -19.5,10.5; L3 -18.5,10.5; L4 -17.5,10.5; L5 -16.5,10.5; L6 -15.5,10.5; L7 -14.5,10.5; L8 -13.5,10.5; L9 -12.5,10.5; L10 -11.5,10.5; L11 -10.5,10.5; L12 -9.5,10.5; L13 -8.5,10.5; L14 -7.5,10.5; L15 -6.5,10.5; L16 -5.5,10.5; L17 -4.5,10.5; L18 -3.5,10.5; L19 -2.5,10.5; L20 -1.5,10.5; L21 -0.5,10.5; L22 0.5,10.5; L23 1.5,10.5; L24 2.5,10.5; L25 3.5,10.5; L26 4.5,10.5; L27 5.5,10.5; L28 6.5,10.5; L29 7.5,10.5; L30 8.5,10.5; L31 9.5,10.5; L32 10.5,10.5; L33 11.5,10.5; L34 12.5,10.5; L35 13.5,10.5; L36 14.5,10.5; L37 15.5,10.5; L38 16.5,10.5; L39 17.5,10.5; L40 18.5,10.5; L41 19.5,10.5; L42 20.5,10.5; M1 -20.5,9.5; M2 -19.5,9.5; M3 -18.5,9.5; M4 -17.5,9.5; M5 -16.5,9.5; M6 -15.5,9.5; M7 -14.5,9.5; M8 -13.5,9.5; M9 -12.5,9.5; M10 -11.5,9.5; M11 -10.5,9.5; M12 -9.5,9.5; M13 -8.5,9.5; M14 -7.5,9.5; M15 -6.5,9.5; M16 -5.5,9.5; M17 -4.5,9.5; M18 -3.5,9.5; M19 -2.5,9.5; M20 -1.5,9.5; M21 -0.5,9.5; M22 0.5,9.5; M23 1.5,9.5; M24 2.5,9.5; M25 3.5,9.5; M26 4.5,9.5; M27 5.5,9.5; M28 6.5,9.5; M29 7.5,9.5; M30 8.5,9.5; M31 9.5,9.5; M32 10.5,9.5; M33 11.5,9.5; M34 12.5,9.5; M35 13.5,9.5; M36 14.5,9.5; M37 15.5,9.5; M38 16.5,9.5; M39 17.5,9.5; M40 18.5,9.5; M41 19.5,9.5; M42 20.5,9.5; N1 -20.5,8.5; N2 -19.5,8.5; N3 -18.5,8.5; N4 -17.5,8.5; N5 -16.5,8.5; N6 -15.5,8.5; N7 -14.5,8.5; N8 -13.5,8.5; N9 -12.5,8.5; N10 -11.5,8.5; N11 -10.5,8.5; N12 -9.5,8.5; N13 -8.5,8.5; N14 -7.5,8.5; N15 -6.5,8.5; N16 -5.5,8.5; N17 -4.5,8.5; N18 -3.5,8.5; N19 -2.5,8.5; N20 -1.5,8.5; N21 -0.5,8.5; N22 0.5,8.5; N23 1.5,8.5; N24 2.5,8.5; N25 3.5,8.5; N26 4.5,8.5; N27 5.5,8.5; N28 6.5,8.5; N29 7.5,8.5; N30 8.5,8.5; N31 9.5,8.5; N32 10.5,8.5; N33 11.5,8.5; N34 12.5,8.5; N35 13.5,8.5; N36 14.5,8.5; N37 15.5,8.5; N38 16.5,8.5; N39 17.5,8.5; N40 18.5,8.5; N41 19.5,8.5; N42 20.5,8.5; P1 -20.5,7.5; P2 -19.5,7.5; P3 -18.5,7.5; P4 -17.5,7.5; P5 -16.5,7.5; P6 -15.5,7.5; P7 -14.5,7.5; P8 -13.5,7.5; P9 -12.5,7.5; P10 -11.5,7.5; P11 -10.5,7.5; P12 -9.5,7.5; P13 -8.5,7.5; P14 -7.5,7.5; P15 -6.5,7.5; P16 -5.5,7.5; P17 -4.5,7.5; P18 -3.5,7.5; P19 -2.5,7.5; P20 -1.5,7.5; P21 -0.5,7.5; P22 0.5,7.5; P23 1.5,7.5; P24 2.5,7.5; P25 3.5,7.5; P26 4.5,7.5; P27 5.5,7.5; P28 6.5,7.5; P29 7.5,7.5; P30 8.5,7.5; P31 9.5,7.5; P32 10.5,7.5; P33 11.5,7.5; P34 12.5,7.5; P35 13.5,7.5; P36 14.5,7.5; P37 15.5,7.5; P38 16.5,7.5; P39 17.5,7.5; P40 18.5,7.5; P41 19.5,7.5; P42 20.5,7.5; R1 -20.5,6.5; R2 -19.5,6.5; R3 -18.5,6.5; R4 -17.5,6.5; R5 -16.5,6.5; R6 -15.5,6.5; R7 -14.5,6.5; R8 -13.5,6.5; R9 -12.5,6.5; R10 -11.5,6.5; R11 -10.5,6.5; R12 -9.5,6.5; R13 -8.5,6.5; R14 -7.5,6.5; R15 -6.5,6.5; R16 -5.5,6.5; R17 -4.5,6.5; R18 -3.5,6.5; R19 -2.5,6.5; R20 -1.5,6.5; R21 -0.5,6.5; R22 0.5,6.5; R23 1.5,6.5; R24 2.5,6.5; R25 3.5,6.5; R26 4.5,6.5; R27 5.5,6.5; R28 6.5,6.5; R29 7.5,6.5; R30 8.5,6.5; R31 9.5,6.5; R32 10.5,6.5; R33 11.5,6.5; R34 12.5,6.5; R35 13.5,6.5; R36 14.5,6.5; R37 15.5,6.5; R38 16.5,6.5; R39 17.5,6.5; R40 18.5,6.5; R41 19.5,6.5; R42 20.5,6.5; T1 -20.5,5.5; T2 -19.5,5.5; T3 -18.5,5.5; T4 -17.5,5.5; T5 -16.5,5.5; T6 -15.5,5.5; T7 -14.5,5.5; T8 -13.5,5.5; T9 -12.5,5.5; T10 -11.5,5.5; T11 -10.5,5.5; T12 -9.5,5.5; T13 -8.5,5.5; T14 -7.5,5.5; T15 -6.5,5.5; T16 -5.5,5.5; T17 -4.5,5.5; T18 -3.5,5.5; T19 -2.5,5.5; T20 -1.5,5.5; T21 -0.5,5.5; T22 0.5,5.5; T23 1.5,5.5; T24 2.5,5.5; T25 3.5,5.5; T26 4.5,5.5; T27 5.5,5.5; T28 6.5,5.5; T29 7.5,5.5; T30 8.5,5.5; T31 9.5,5.5; T32 10.5,5.5; T33 11.5,5.5; T34 12.5,5.5; T35 13.5,5.5; T36 14.5,5.5; T37 15.5,5.5; T38 16.5,5.5; T39 17.5,5.5; T40 18.5,5.5; T41 19.5,5.5; T42 20.5,5.5; U1 -20.5,4.5; U2 -19.5,4.5; U3 -18.5,4.5; U4 -17.5,4.5; U5 -16.5,4.5; U6 -15.5,4.5; U7 -14.5,4.5; U8 -13.5,4.5; U9 -12.5,4.5; U10 -11.5,4.5; U11 -10.5,4.5; U12 -9.5,4.5; U13 -8.5,4.5; U14 -7.5,4.5; U15 -6.5,4.5; U16 -5.5,4.5; U17 -4.5,4.5; U18 -3.5,4.5; U19 -2.5,4.5; U20 -1.5,4.5; U21 -0.5,4.5; U22 0.5,4.5; U23 1.5,4.5; U24 2.5,4.5; U25 3.5,4.5; U26 4.5,4.5; U27 5.5,4.5; U28 6.5,4.5; U29 7.5,4.5; U30 8.5,4.5; U31 9.5,4.5; U32 10.5,4.5; U33 11.5,4.5; U34 12.5,4.5; U35 13.5,4.5; U36 14.5,4.5; U37 15.5,4.5; U38 16.5,4.5; U39 17.5,4.5; U40 18.5,4.5; U41 19.5,4.5; U42 20.5,4.5; V1 -20.5,3.5; V2 -19.5,3.5; V3 -18.5,3.5; V4 -17.5,3.5; V5 -16.5,3.5; V6 -15.5,3.5; V7 -14.5,3.5; V8 -13.5,3.5; V9 -12.5,3.5; V10 -11.5,3.5; V11 -10.5,3.5; V12 -9.5,3.5; V13 -8.5,3.5; V14 -7.5,3.5; V15 -6.5,3.5; V16 -5.5,3.5; V17 -4.5,3.5; V18 -3.5,3.5; V19 -2.5,3.5; V20 -1.5,3.5; V21 -0.5,3.5; V22 0.5,3.5; V23 1.5,3.5; V24 2.5,3.5; V25 3.5,3.5; V26 4.5,3.5; V27 5.5,3.5; V28 6.5,3.5; V29 7.5,3.5; V30 8.5,3.5; V31 9.5,3.5; V32 10.5,3.5; V33 11.5,3.5; V34 12.5,3.5; V35 13.5,3.5; V36 14.5,3.5; V37 15.5,3.5; V38 16.5,3.5; V39 17.5,3.5; V40 18.5,3.5; V41 19.5,3.5; V42 20.5,3.5; W1 -20.5,2.5; W2 -19.5,2.5; W3 -18.5,2.5; W4 -17.5,2.5; W5 -16.5,2.5; W6 -15.5,2.5; W7 -14.5,2.5; W8 -13.5,2.5; W9 -12.5,2.5; W10 -11.5,2.5; W11 -10.5,2.5; W12 -9.5,2.5; W13 -8.5,2.5; W14 -7.5,2.5; W15 -6.5,2.5; W16 -5.5,2.5; W17 -4.5,2.5; W18 -3.5,2.5; W19 -2.5,2.5; W20 -1.5,2.5; W21 -0.5,2.5; W22 0.5,2.5; W23 1.5,2.5; W24 2.5,2.5; W25 3.5,2.5; W26 4.5,2.5; W27 5.5,2.5; W28 6.5,2.5; W29 7.5,2.5; W30 8.5,2.5; W31 9.5,2.5; W32 10.5,2.5; W33 11.5,2.5; W34 12.5,2.5; W35 13.5,2.5; W36 14.5,2.5; W37 15.5,2.5; W38 16.5,2.5; W39 17.5,2.5; W40 18.5,2.5; W41 19.5,2.5; W42 20.5,2.5; Y1 -20.5,1.5; Y2 -19.5,1.5; Y3 -18.5,1.5; Y4 -17.5,1.5; Y5 -16.5,1.5; Y6 -15.5,1.5; Y7 -14.5,1.5; Y8 -13.5,1.5; Y9 -12.5,1.5; Y10 -11.5,1.5; Y11 -10.5,1.5; Y12 -9.5,1.5; Y13 -8.5,1.5; Y14 -7.5,1.5; Y15 -6.5,1.5; Y16 -5.5,1.5; Y17 -4.5,1.5; Y18 -3.5,1.5; Y19 -2.5,1.5; Y20 -1.5,1.5; Y21 -0.5,1.5; Y22 0.5,1.5; Y23 1.5,1.5; Y24 2.5,1.5; Y25 3.5,1.5; Y26 4.5,1.5; Y27 5.5,1.5; Y28 6.5,1.5; Y29 7.5,1.5; Y30 8.5,1.5; Y31 9.5,1.5; Y32 10.5,1.5; Y33 11.5,1.5; Y34 12.5,1.5; Y35 13.5,1.5; Y36 14.5,1.5; Y37 15.5,1.5; Y38 16.5,1.5; Y39 17.5,1.5; Y40 18.5,1.5; Y41 19.5,1.5; Y42 20.5,1.5